# Altium schematic symbol library TI Microcontroller 32-Bit ARM.SchLib: 163 symbols (part 9 of 10)
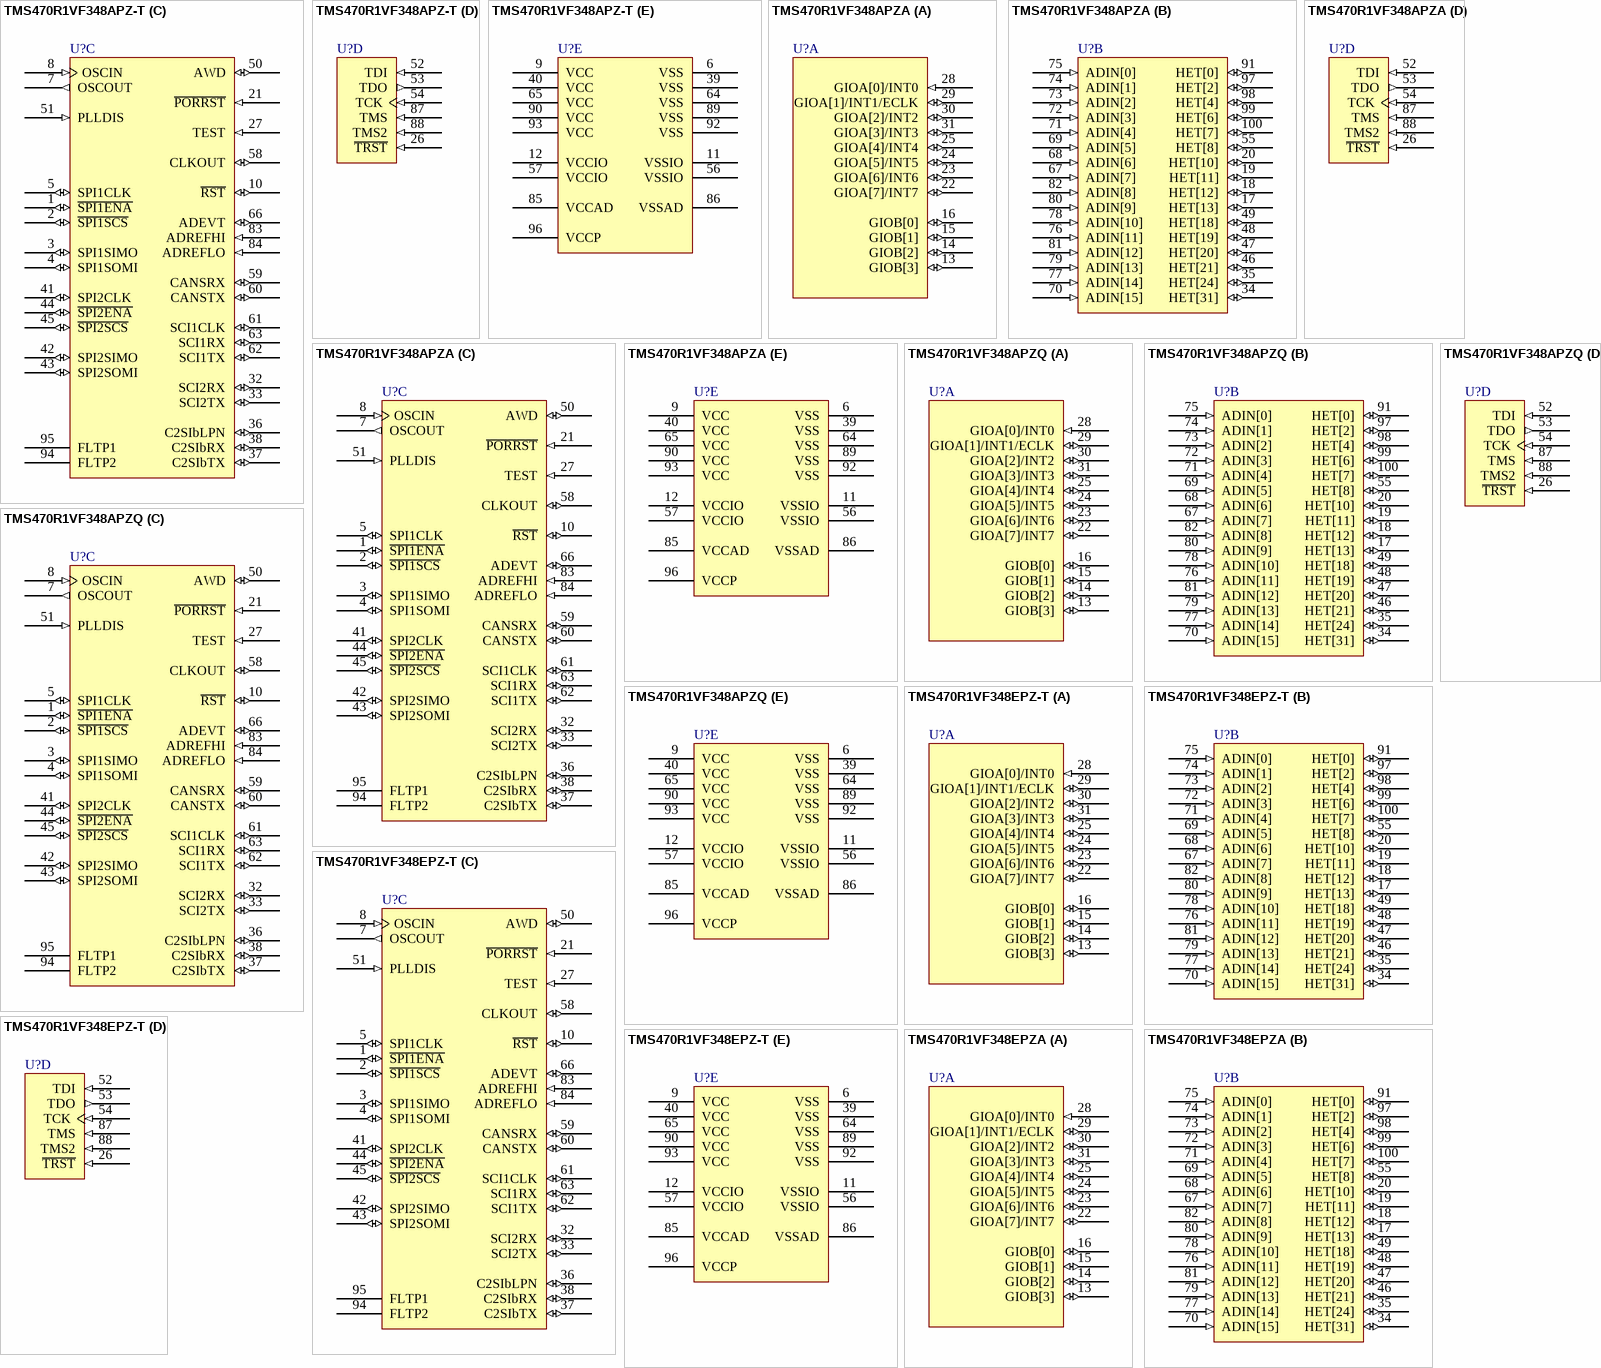
[diagram p60: symbols TMS470R1VF348APZ-T to TMS470R1VF348EPZA]

## TMS470R1VF348APZA
designator U?
ARM7TDMI 16/32-Bit RISC Automotive MCU, 256KB Flash, 12KB RAM, 100-pin LQFP, -40ºC to 85ºC; Published: 30-Mar-2007; DatasheetVersion: Aug-2006; PackageVersion: Dec-1996; PackageReference: PZ100; Publisher: Altium Limited; PackageDescription: 100-Pin Thin Quad Flat Pack 0.5 mm Pitch; ComponentLink1Description: Manufacturer Link; ComponentLink1URL: http://www.ti.com/; ComponentLink2Description: Datasheet; ComponentLink2URL: http://focus.ti.com/lit/ds/symlink/tms470r1vf338.pdf
footprint PZ100_N (Thin QFP, 100-Leads, Body 14x14mm, Pitch 0.5mm, IPC Medium Density)
footprint PZ100_L (Thin QFP, 100-Leads, Body 14x14mm, Pitch 0.5mm, IPC High Density)
footprint PZ100_M (Thin QFP, 100-Leads, Body 14x14mm, Pitch 0.5mm, IPC Low Density)
part A pins: 13 GIOB[3] (io), 14 GIOB[2] (io), 15 GIOB[1] (io), 16 GIOB[0] (io), 22 GIOA[7]/INT7 (io), 23 GIOA[6]/INT6 (io), 24 GIOA[5]/INT5 (io), 25 GIOA[4]/INT4 (io), 28 GIOA[0]/INT0 (in), 29 GIOA[1]/INT1/ECLK (io), 30 GIOA[2]/INT2 (io), 31 GIOA[3]/INT3 (io)
part B pins: 17 HET[13] (io), 18 HET[12] (io), 19 HET[11] (io), 20 HET[10] (io), 34 HET[31] (io), 35 HET[24] (io), 46 HET[21] (io), 47 HET[20] (io), 48 HET[19] (io), 49 HET[18] (io), 55 HET[8] (io), 67 ADIN[7] (in), 68 ADIN[6] (in), 69 ADIN[5] (in), 70 ADIN[15] (in), 71 ADIN[4] (in), 72 ADIN[3] (in), 73 ADIN[2] (in), 74 ADIN[1] (in), 75 ADIN[0] (in), 76 ADIN[11] (in), 77 ADIN[14] (in), 78 ADIN[10] (in), 79 ADIN[13] (in), 80 ADIN[9] (in), 81 ADIN[12] (in), 82 ADIN[8] (in), 91 HET[0] (io), 97 HET[2] (io), 98 HET[4] (io), 99 HET[6] (io), 100 HET[7] (io)
part C pins: 1 ~{SPI1ENA} (io), 2 ~{SPI1SCS} (io), 3 SPI1SIMO (io), 4 SPI1SOMI (io), 5 SPI1CLK (io), 7 OSCOUT (out), 8 OSCIN (in), 10 ~{RST} (io), 21 ~{PORRST} (in), 27 TEST (in), 32 SCI2RX (io), 33 SCI2TX (io), 36 C2SIbLPN (io), 37 C2SIbTX (io), 38 C2SIbRX (io), 41 SPI2CLK (io), 42 SPI2SIMO (io), 43 SPI2SOMI (io), 44 ~{SPI2ENA} (io), 45 ~{SPI2SCS} (io), 50 AWD (io), 51 PLLDIS (in), 58 CLKOUT (io), 59 CANSRX (io), 60 CANSTX (io), 61 SCI1CLK (io), 62 SCI1TX (io), 63 SCI1RX (io), 66 ADEVT (io), 83 ADREFHI (in), 84 ADREFLO (in), 94 FLTP2, 95 FLTP1
part D pins: 26 ~{TRST} (in), 52 TDI (in), 53 TDO (out), 54 TCK (in), 87 TMS (in), 88 TMS2 (in)
part E pins: 6 VSS (power), 9 VCC (power), 11 VSSIO (power), 12 VCCIO (power), 39 VSS (power), 40 VCC (power), 56 VSSIO (power), 57 VCCIO (power), 64 VSS (power), 65 VCC (power), 85 VCCAD (power), 86 VSSAD (power), 89 VSS (power), 90 VCC (power), 92 VSS (power), 93 VCC (power), 96 VCCP (power)

## TMS470R1VF348APZQ
designator U?
ARM7TDMI 16/32-Bit RISC Automotive MCU, 256KB Flash, 12KB RAM, 100-pin LQFP, -40ºC to 125ºC; Published: 30-Mar-2007; DatasheetVersion: Aug-2006; PackageVersion: Dec-1996; PackageReference: PZ100; Publisher: Altium Limited; PackageDescription: 100-Pin Thin Quad Flat Pack 0.5 mm Pitch; ComponentLink1Description: Manufacturer Link; ComponentLink1URL: http://www.ti.com/; ComponentLink2Description: Datasheet; ComponentLink2URL: http://focus.ti.com/lit/ds/symlink/tms470r1vf338.pdf
footprint PZ100_N (Thin QFP, 100-Leads, Body 14x14mm, Pitch 0.5mm, IPC Medium Density)
footprint PZ100_L (Thin QFP, 100-Leads, Body 14x14mm, Pitch 0.5mm, IPC High Density)
footprint PZ100_M (Thin QFP, 100-Leads, Body 14x14mm, Pitch 0.5mm, IPC Low Density)
part A pins: 13 GIOB[3] (io), 14 GIOB[2] (io), 15 GIOB[1] (io), 16 GIOB[0] (io), 22 GIOA[7]/INT7 (io), 23 GIOA[6]/INT6 (io), 24 GIOA[5]/INT5 (io), 25 GIOA[4]/INT4 (io), 28 GIOA[0]/INT0 (in), 29 GIOA[1]/INT1/ECLK (io), 30 GIOA[2]/INT2 (io), 31 GIOA[3]/INT3 (io)
part B pins: 17 HET[13] (io), 18 HET[12] (io), 19 HET[11] (io), 20 HET[10] (io), 34 HET[31] (io), 35 HET[24] (io), 46 HET[21] (io), 47 HET[20] (io), 48 HET[19] (io), 49 HET[18] (io), 55 HET[8] (io), 67 ADIN[7] (in), 68 ADIN[6] (in), 69 ADIN[5] (in), 70 ADIN[15] (in), 71 ADIN[4] (in), 72 ADIN[3] (in), 73 ADIN[2] (in), 74 ADIN[1] (in), 75 ADIN[0] (in), 76 ADIN[11] (in), 77 ADIN[14] (in), 78 ADIN[10] (in), 79 ADIN[13] (in), 80 ADIN[9] (in), 81 ADIN[12] (in), 82 ADIN[8] (in), 91 HET[0] (io), 97 HET[2] (io), 98 HET[4] (io), 99 HET[6] (io), 100 HET[7] (io)
part C pins: 1 ~{SPI1ENA} (io), 2 ~{SPI1SCS} (io), 3 SPI1SIMO (io), 4 SPI1SOMI (io), 5 SPI1CLK (io), 7 OSCOUT (out), 8 OSCIN (in), 10 ~{RST} (io), 21 ~{PORRST} (in), 27 TEST (in), 32 SCI2RX (io), 33 SCI2TX (io), 36 C2SIbLPN (io), 37 C2SIbTX (io), 38 C2SIbRX (io), 41 SPI2CLK (io), 42 SPI2SIMO (io), 43 SPI2SOMI (io), 44 ~{SPI2ENA} (io), 45 ~{SPI2SCS} (io), 50 AWD (io), 51 PLLDIS (in), 58 CLKOUT (io), 59 CANSRX (io), 60 CANSTX (io), 61 SCI1CLK (io), 62 SCI1TX (io), 63 SCI1RX (io), 66 ADEVT (io), 83 ADREFHI (in), 84 ADREFLO (in), 94 FLTP2, 95 FLTP1
part D pins: 26 ~{TRST} (in), 52 TDI (in), 53 TDO (out), 54 TCK (in), 87 TMS (in), 88 TMS2 (in)
part E pins: 6 VSS (power), 9 VCC (power), 11 VSSIO (power), 12 VCCIO (power), 39 VSS (power), 40 VCC (power), 56 VSSIO (power), 57 VCCIO (power), 64 VSS (power), 65 VCC (power), 85 VCCAD (power), 86 VSSAD (power), 89 VSS (power), 90 VCC (power), 92 VSS (power), 93 VCC (power), 96 VCCP (power)

## TMS470R1VF348EPZ-T
designator U?
ARM7TDMI 16/32-Bit RISC Automotive MCU, 256KB Flash, 12KB RAM, 100-pin LQFP, -40ºC to 105ºC; Published: 30-Mar-2007; DatasheetVersion: Aug-2006; PackageVersion: Dec-1996; PackageReference: PZ100; Publisher: Altium Limited; PackageDescription: 100-Pin Thin Quad Flat Pack 0.5 mm Pitch; ComponentLink1Description: Manufacturer Link; ComponentLink1URL: http://www.ti.com/; ComponentLink2Description: Datasheet; ComponentLink2URL: http://focus.ti.com/lit/ds/symlink/tms470r1vf338.pdf
footprint PZ100_N (Thin QFP, 100-Leads, Body 14x14mm, Pitch 0.5mm, IPC Medium Density)
footprint PZ100_L (Thin QFP, 100-Leads, Body 14x14mm, Pitch 0.5mm, IPC High Density)
footprint PZ100_M (Thin QFP, 100-Leads, Body 14x14mm, Pitch 0.5mm, IPC Low Density)
part A pins: 13 GIOB[3] (io), 14 GIOB[2] (io), 15 GIOB[1] (io), 16 GIOB[0] (io), 22 GIOA[7]/INT7 (io), 23 GIOA[6]/INT6 (io), 24 GIOA[5]/INT5 (io), 25 GIOA[4]/INT4 (io), 28 GIOA[0]/INT0 (in), 29 GIOA[1]/INT1/ECLK (io), 30 GIOA[2]/INT2 (io), 31 GIOA[3]/INT3 (io)
part B pins: 17 HET[13] (io), 18 HET[12] (io), 19 HET[11] (io), 20 HET[10] (io), 34 HET[31] (io), 35 HET[24] (io), 46 HET[21] (io), 47 HET[20] (io), 48 HET[19] (io), 49 HET[18] (io), 55 HET[8] (io), 67 ADIN[7] (in), 68 ADIN[6] (in), 69 ADIN[5] (in), 70 ADIN[15] (in), 71 ADIN[4] (in), 72 ADIN[3] (in), 73 ADIN[2] (in), 74 ADIN[1] (in), 75 ADIN[0] (in), 76 ADIN[11] (in), 77 ADIN[14] (in), 78 ADIN[10] (in), 79 ADIN[13] (in), 80 ADIN[9] (in), 81 ADIN[12] (in), 82 ADIN[8] (in), 91 HET[0] (io), 97 HET[2] (io), 98 HET[4] (io), 99 HET[6] (io), 100 HET[7] (io)
part C pins: 1 ~{SPI1ENA} (io), 2 ~{SPI1SCS} (io), 3 SPI1SIMO (io), 4 SPI1SOMI (io), 5 SPI1CLK (io), 7 OSCOUT (out), 8 OSCIN (in), 10 ~{RST} (io), 21 ~{PORRST} (in), 27 TEST (in), 32 SCI2RX (io), 33 SCI2TX (io), 36 C2SIbLPN (io), 37 C2SIbTX (io), 38 C2SIbRX (io), 41 SPI2CLK (io), 42 SPI2SIMO (io), 43 SPI2SOMI (io), 44 ~{SPI2ENA} (io), 45 ~{SPI2SCS} (io), 50 AWD (io), 51 PLLDIS (in), 58 CLKOUT (io), 59 CANSRX (io), 60 CANSTX (io), 61 SCI1CLK (io), 62 SCI1TX (io), 63 SCI1RX (io), 66 ADEVT (io), 83 ADREFHI (in), 84 ADREFLO (in), 94 FLTP2, 95 FLTP1
part D pins: 26 ~{TRST} (in), 52 TDI (in), 53 TDO (out), 54 TCK (in), 87 TMS (in), 88 TMS2 (in)
part E pins: 6 VSS (power), 9 VCC (power), 11 VSSIO (power), 12 VCCIO (power), 39 VSS (power), 40 VCC (power), 56 VSSIO (power), 57 VCCIO (power), 64 VSS (power), 65 VCC (power), 85 VCCAD (power), 86 VSSAD (power), 89 VSS (power), 90 VCC (power), 92 VSS (power), 93 VCC (power), 96 VCCP (power)

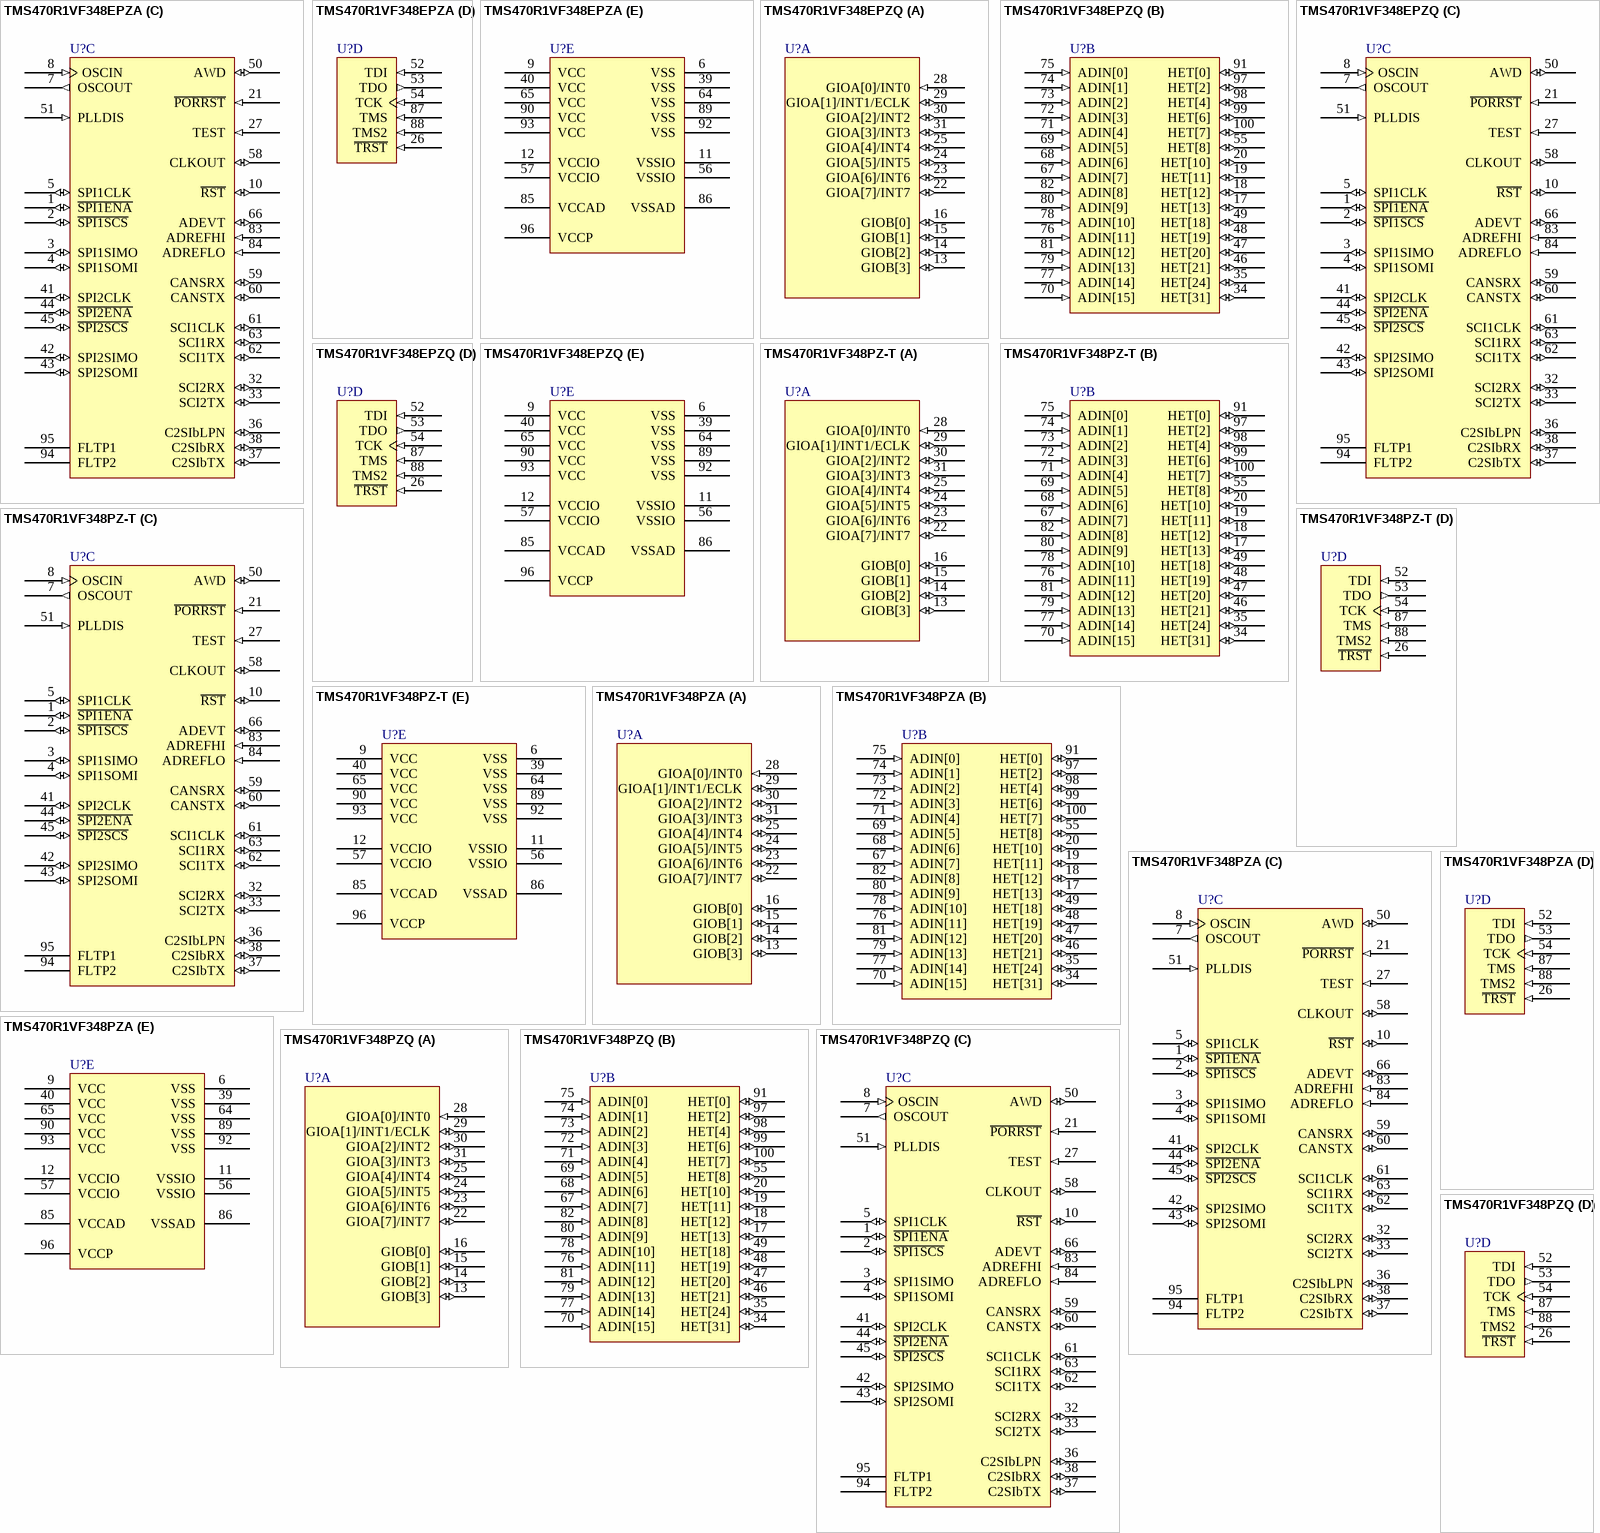
[diagram p43: symbols TMS470R1VF348EPZA to TMS470R1VF348PZQ]

## TMS470R1VF348EPZA
designator U?
ARM7TDMI 16/32-Bit RISC Automotive MCU, 256KB Flash, 12KB RAM, 100-pin LQFP, -40ºC to 85ºC; Published: 30-Mar-2007; DatasheetVersion: Aug-2006; PackageVersion: Dec-1996; PackageReference: PZ100; Publisher: Altium Limited; PackageDescription: 100-Pin Thin Quad Flat Pack 0.5 mm Pitch; ComponentLink1Description: Manufacturer Link; ComponentLink1URL: http://www.ti.com/; ComponentLink2Description: Datasheet; ComponentLink2URL: http://focus.ti.com/lit/ds/symlink/tms470r1vf338.pdf
footprint PZ100_N (Thin QFP, 100-Leads, Body 14x14mm, Pitch 0.5mm, IPC Medium Density)
footprint PZ100_L (Thin QFP, 100-Leads, Body 14x14mm, Pitch 0.5mm, IPC High Density)
footprint PZ100_M (Thin QFP, 100-Leads, Body 14x14mm, Pitch 0.5mm, IPC Low Density)
part A pins: 13 GIOB[3] (io), 14 GIOB[2] (io), 15 GIOB[1] (io), 16 GIOB[0] (io), 22 GIOA[7]/INT7 (io), 23 GIOA[6]/INT6 (io), 24 GIOA[5]/INT5 (io), 25 GIOA[4]/INT4 (io), 28 GIOA[0]/INT0 (in), 29 GIOA[1]/INT1/ECLK (io), 30 GIOA[2]/INT2 (io), 31 GIOA[3]/INT3 (io)
part B pins: 17 HET[13] (io), 18 HET[12] (io), 19 HET[11] (io), 20 HET[10] (io), 34 HET[31] (io), 35 HET[24] (io), 46 HET[21] (io), 47 HET[20] (io), 48 HET[19] (io), 49 HET[18] (io), 55 HET[8] (io), 67 ADIN[7] (in), 68 ADIN[6] (in), 69 ADIN[5] (in), 70 ADIN[15] (in), 71 ADIN[4] (in), 72 ADIN[3] (in), 73 ADIN[2] (in), 74 ADIN[1] (in), 75 ADIN[0] (in), 76 ADIN[11] (in), 77 ADIN[14] (in), 78 ADIN[10] (in), 79 ADIN[13] (in), 80 ADIN[9] (in), 81 ADIN[12] (in), 82 ADIN[8] (in), 91 HET[0] (io), 97 HET[2] (io), 98 HET[4] (io), 99 HET[6] (io), 100 HET[7] (io)
part C pins: 1 ~{SPI1ENA} (io), 2 ~{SPI1SCS} (io), 3 SPI1SIMO (io), 4 SPI1SOMI (io), 5 SPI1CLK (io), 7 OSCOUT (out), 8 OSCIN (in), 10 ~{RST} (io), 21 ~{PORRST} (in), 27 TEST (in), 32 SCI2RX (io), 33 SCI2TX (io), 36 C2SIbLPN (io), 37 C2SIbTX (io), 38 C2SIbRX (io), 41 SPI2CLK (io), 42 SPI2SIMO (io), 43 SPI2SOMI (io), 44 ~{SPI2ENA} (io), 45 ~{SPI2SCS} (io), 50 AWD (io), 51 PLLDIS (in), 58 CLKOUT (io), 59 CANSRX (io), 60 CANSTX (io), 61 SCI1CLK (io), 62 SCI1TX (io), 63 SCI1RX (io), 66 ADEVT (io), 83 ADREFHI (in), 84 ADREFLO (in), 94 FLTP2, 95 FLTP1
part D pins: 26 ~{TRST} (in), 52 TDI (in), 53 TDO (out), 54 TCK (in), 87 TMS (in), 88 TMS2 (in)
part E pins: 6 VSS (power), 9 VCC (power), 11 VSSIO (power), 12 VCCIO (power), 39 VSS (power), 40 VCC (power), 56 VSSIO (power), 57 VCCIO (power), 64 VSS (power), 65 VCC (power), 85 VCCAD (power), 86 VSSAD (power), 89 VSS (power), 90 VCC (power), 92 VSS (power), 93 VCC (power), 96 VCCP (power)

## TMS470R1VF348EPZQ
designator U?
ARM7TDMI 16/32-Bit RISC Automotive MCU, 256KB Flash, 12KB RAM, 100-pin LQFP, -40ºC to 125ºC; Published: 30-Mar-2007; DatasheetVersion: Aug-2006; PackageVersion: Dec-1996; PackageReference: PZ100; Publisher: Altium Limited; PackageDescription: 100-Pin Thin Quad Flat Pack 0.5 mm Pitch; ComponentLink1Description: Manufacturer Link; ComponentLink1URL: http://www.ti.com/; ComponentLink2Description: Datasheet; ComponentLink2URL: http://focus.ti.com/lit/ds/symlink/tms470r1vf338.pdf
footprint PZ100_N (Thin QFP, 100-Leads, Body 14x14mm, Pitch 0.5mm, IPC Medium Density)
footprint PZ100_L (Thin QFP, 100-Leads, Body 14x14mm, Pitch 0.5mm, IPC High Density)
footprint PZ100_M (Thin QFP, 100-Leads, Body 14x14mm, Pitch 0.5mm, IPC Low Density)
part A pins: 13 GIOB[3] (io), 14 GIOB[2] (io), 15 GIOB[1] (io), 16 GIOB[0] (io), 22 GIOA[7]/INT7 (io), 23 GIOA[6]/INT6 (io), 24 GIOA[5]/INT5 (io), 25 GIOA[4]/INT4 (io), 28 GIOA[0]/INT0 (in), 29 GIOA[1]/INT1/ECLK (io), 30 GIOA[2]/INT2 (io), 31 GIOA[3]/INT3 (io)
part B pins: 17 HET[13] (io), 18 HET[12] (io), 19 HET[11] (io), 20 HET[10] (io), 34 HET[31] (io), 35 HET[24] (io), 46 HET[21] (io), 47 HET[20] (io), 48 HET[19] (io), 49 HET[18] (io), 55 HET[8] (io), 67 ADIN[7] (in), 68 ADIN[6] (in), 69 ADIN[5] (in), 70 ADIN[15] (in), 71 ADIN[4] (in), 72 ADIN[3] (in), 73 ADIN[2] (in), 74 ADIN[1] (in), 75 ADIN[0] (in), 76 ADIN[11] (in), 77 ADIN[14] (in), 78 ADIN[10] (in), 79 ADIN[13] (in), 80 ADIN[9] (in), 81 ADIN[12] (in), 82 ADIN[8] (in), 91 HET[0] (io), 97 HET[2] (io), 98 HET[4] (io), 99 HET[6] (io), 100 HET[7] (io)
part C pins: 1 ~{SPI1ENA} (io), 2 ~{SPI1SCS} (io), 3 SPI1SIMO (io), 4 SPI1SOMI (io), 5 SPI1CLK (io), 7 OSCOUT (out), 8 OSCIN (in), 10 ~{RST} (io), 21 ~{PORRST} (in), 27 TEST (in), 32 SCI2RX (io), 33 SCI2TX (io), 36 C2SIbLPN (io), 37 C2SIbTX (io), 38 C2SIbRX (io), 41 SPI2CLK (io), 42 SPI2SIMO (io), 43 SPI2SOMI (io), 44 ~{SPI2ENA} (io), 45 ~{SPI2SCS} (io), 50 AWD (io), 51 PLLDIS (in), 58 CLKOUT (io), 59 CANSRX (io), 60 CANSTX (io), 61 SCI1CLK (io), 62 SCI1TX (io), 63 SCI1RX (io), 66 ADEVT (io), 83 ADREFHI (in), 84 ADREFLO (in), 94 FLTP2, 95 FLTP1
part D pins: 26 ~{TRST} (in), 52 TDI (in), 53 TDO (out), 54 TCK (in), 87 TMS (in), 88 TMS2 (in)
part E pins: 6 VSS (power), 9 VCC (power), 11 VSSIO (power), 12 VCCIO (power), 39 VSS (power), 40 VCC (power), 56 VSSIO (power), 57 VCCIO (power), 64 VSS (power), 65 VCC (power), 85 VCCAD (power), 86 VSSAD (power), 89 VSS (power), 90 VCC (power), 92 VSS (power), 93 VCC (power), 96 VCCP (power)

## TMS470R1VF348PZ-T
designator U?
ARM7TDMI 16/32-Bit RISC Automotive MCU, 256KB Flash, 12KB RAM, 100-pin LQFP, -40ºC to 105ºC; Published: 30-Mar-2007; DatasheetVersion: Aug-2006; PackageVersion: Dec-1996; PackageReference: PZ100; Publisher: Altium Limited; PackageDescription: 100-Pin Thin Quad Flat Pack 0.5 mm Pitch; ComponentLink1Description: Manufacturer Link; ComponentLink1URL: http://www.ti.com/; ComponentLink2Description: Datasheet; ComponentLink2URL: http://focus.ti.com/lit/ds/symlink/tms470r1vf338.pdf
footprint PZ100_N (Thin QFP, 100-Leads, Body 14x14mm, Pitch 0.5mm, IPC Medium Density)
footprint PZ100_L (Thin QFP, 100-Leads, Body 14x14mm, Pitch 0.5mm, IPC High Density)
footprint PZ100_M (Thin QFP, 100-Leads, Body 14x14mm, Pitch 0.5mm, IPC Low Density)
part A pins: 13 GIOB[3] (io), 14 GIOB[2] (io), 15 GIOB[1] (io), 16 GIOB[0] (io), 22 GIOA[7]/INT7 (io), 23 GIOA[6]/INT6 (io), 24 GIOA[5]/INT5 (io), 25 GIOA[4]/INT4 (io), 28 GIOA[0]/INT0 (in), 29 GIOA[1]/INT1/ECLK (io), 30 GIOA[2]/INT2 (io), 31 GIOA[3]/INT3 (io)
part B pins: 17 HET[13] (io), 18 HET[12] (io), 19 HET[11] (io), 20 HET[10] (io), 34 HET[31] (io), 35 HET[24] (io), 46 HET[21] (io), 47 HET[20] (io), 48 HET[19] (io), 49 HET[18] (io), 55 HET[8] (io), 67 ADIN[7] (in), 68 ADIN[6] (in), 69 ADIN[5] (in), 70 ADIN[15] (in), 71 ADIN[4] (in), 72 ADIN[3] (in), 73 ADIN[2] (in), 74 ADIN[1] (in), 75 ADIN[0] (in), 76 ADIN[11] (in), 77 ADIN[14] (in), 78 ADIN[10] (in), 79 ADIN[13] (in), 80 ADIN[9] (in), 81 ADIN[12] (in), 82 ADIN[8] (in), 91 HET[0] (io), 97 HET[2] (io), 98 HET[4] (io), 99 HET[6] (io), 100 HET[7] (io)
part C pins: 1 ~{SPI1ENA} (io), 2 ~{SPI1SCS} (io), 3 SPI1SIMO (io), 4 SPI1SOMI (io), 5 SPI1CLK (io), 7 OSCOUT (out), 8 OSCIN (in), 10 ~{RST} (io), 21 ~{PORRST} (in), 27 TEST (in), 32 SCI2RX (io), 33 SCI2TX (io), 36 C2SIbLPN (io), 37 C2SIbTX (io), 38 C2SIbRX (io), 41 SPI2CLK (io), 42 SPI2SIMO (io), 43 SPI2SOMI (io), 44 ~{SPI2ENA} (io), 45 ~{SPI2SCS} (io), 50 AWD (io), 51 PLLDIS (in), 58 CLKOUT (io), 59 CANSRX (io), 60 CANSTX (io), 61 SCI1CLK (io), 62 SCI1TX (io), 63 SCI1RX (io), 66 ADEVT (io), 83 ADREFHI (in), 84 ADREFLO (in), 94 FLTP2, 95 FLTP1
part D pins: 26 ~{TRST} (in), 52 TDI (in), 53 TDO (out), 54 TCK (in), 87 TMS (in), 88 TMS2 (in)
part E pins: 6 VSS (power), 9 VCC (power), 11 VSSIO (power), 12 VCCIO (power), 39 VSS (power), 40 VCC (power), 56 VSSIO (power), 57 VCCIO (power), 64 VSS (power), 65 VCC (power), 85 VCCAD (power), 86 VSSAD (power), 89 VSS (power), 90 VCC (power), 92 VSS (power), 93 VCC (power), 96 VCCP (power)

## TMS470R1VF348PZA
designator U?
ARM7TDMI 16/32-Bit RISC Automotive MCU, 256KB Flash, 12KB RAM, 100-pin LQFP, -40ºC to 85ºC; Published: 30-Mar-2007; DatasheetVersion: Aug-2006; PackageVersion: Dec-1996; PackageReference: PZ100; Publisher: Altium Limited; PackageDescription: 100-Pin Thin Quad Flat Pack 0.5 mm Pitch; ComponentLink1Description: Manufacturer Link; ComponentLink1URL: http://www.ti.com/; ComponentLink2Description: Datasheet; ComponentLink2URL: http://focus.ti.com/lit/ds/symlink/tms470r1vf338.pdf
footprint PZ100_N (Thin QFP, 100-Leads, Body 14x14mm, Pitch 0.5mm, IPC Medium Density)
footprint PZ100_L (Thin QFP, 100-Leads, Body 14x14mm, Pitch 0.5mm, IPC High Density)
footprint PZ100_M (Thin QFP, 100-Leads, Body 14x14mm, Pitch 0.5mm, IPC Low Density)
part A pins: 13 GIOB[3] (io), 14 GIOB[2] (io), 15 GIOB[1] (io), 16 GIOB[0] (io), 22 GIOA[7]/INT7 (io), 23 GIOA[6]/INT6 (io), 24 GIOA[5]/INT5 (io), 25 GIOA[4]/INT4 (io), 28 GIOA[0]/INT0 (in), 29 GIOA[1]/INT1/ECLK (io), 30 GIOA[2]/INT2 (io), 31 GIOA[3]/INT3 (io)
part B pins: 17 HET[13] (io), 18 HET[12] (io), 19 HET[11] (io), 20 HET[10] (io), 34 HET[31] (io), 35 HET[24] (io), 46 HET[21] (io), 47 HET[20] (io), 48 HET[19] (io), 49 HET[18] (io), 55 HET[8] (io), 67 ADIN[7] (in), 68 ADIN[6] (in), 69 ADIN[5] (in), 70 ADIN[15] (in), 71 ADIN[4] (in), 72 ADIN[3] (in), 73 ADIN[2] (in), 74 ADIN[1] (in), 75 ADIN[0] (in), 76 ADIN[11] (in), 77 ADIN[14] (in), 78 ADIN[10] (in), 79 ADIN[13] (in), 80 ADIN[9] (in), 81 ADIN[12] (in), 82 ADIN[8] (in), 91 HET[0] (io), 97 HET[2] (io), 98 HET[4] (io), 99 HET[6] (io), 100 HET[7] (io)
part C pins: 1 ~{SPI1ENA} (io), 2 ~{SPI1SCS} (io), 3 SPI1SIMO (io), 4 SPI1SOMI (io), 5 SPI1CLK (io), 7 OSCOUT (out), 8 OSCIN (in), 10 ~{RST} (io), 21 ~{PORRST} (in), 27 TEST (in), 32 SCI2RX (io), 33 SCI2TX (io), 36 C2SIbLPN (io), 37 C2SIbTX (io), 38 C2SIbRX (io), 41 SPI2CLK (io), 42 SPI2SIMO (io), 43 SPI2SOMI (io), 44 ~{SPI2ENA} (io), 45 ~{SPI2SCS} (io), 50 AWD (io), 51 PLLDIS (in), 58 CLKOUT (io), 59 CANSRX (io), 60 CANSTX (io), 61 SCI1CLK (io), 62 SCI1TX (io), 63 SCI1RX (io), 66 ADEVT (io), 83 ADREFHI (in), 84 ADREFLO (in), 94 FLTP2, 95 FLTP1
part D pins: 26 ~{TRST} (in), 52 TDI (in), 53 TDO (out), 54 TCK (in), 87 TMS (in), 88 TMS2 (in)
part E pins: 6 VSS (power), 9 VCC (power), 11 VSSIO (power), 12 VCCIO (power), 39 VSS (power), 40 VCC (power), 56 VSSIO (power), 57 VCCIO (power), 64 VSS (power), 65 VCC (power), 85 VCCAD (power), 86 VSSAD (power), 89 VSS (power), 90 VCC (power), 92 VSS (power), 93 VCC (power), 96 VCCP (power)

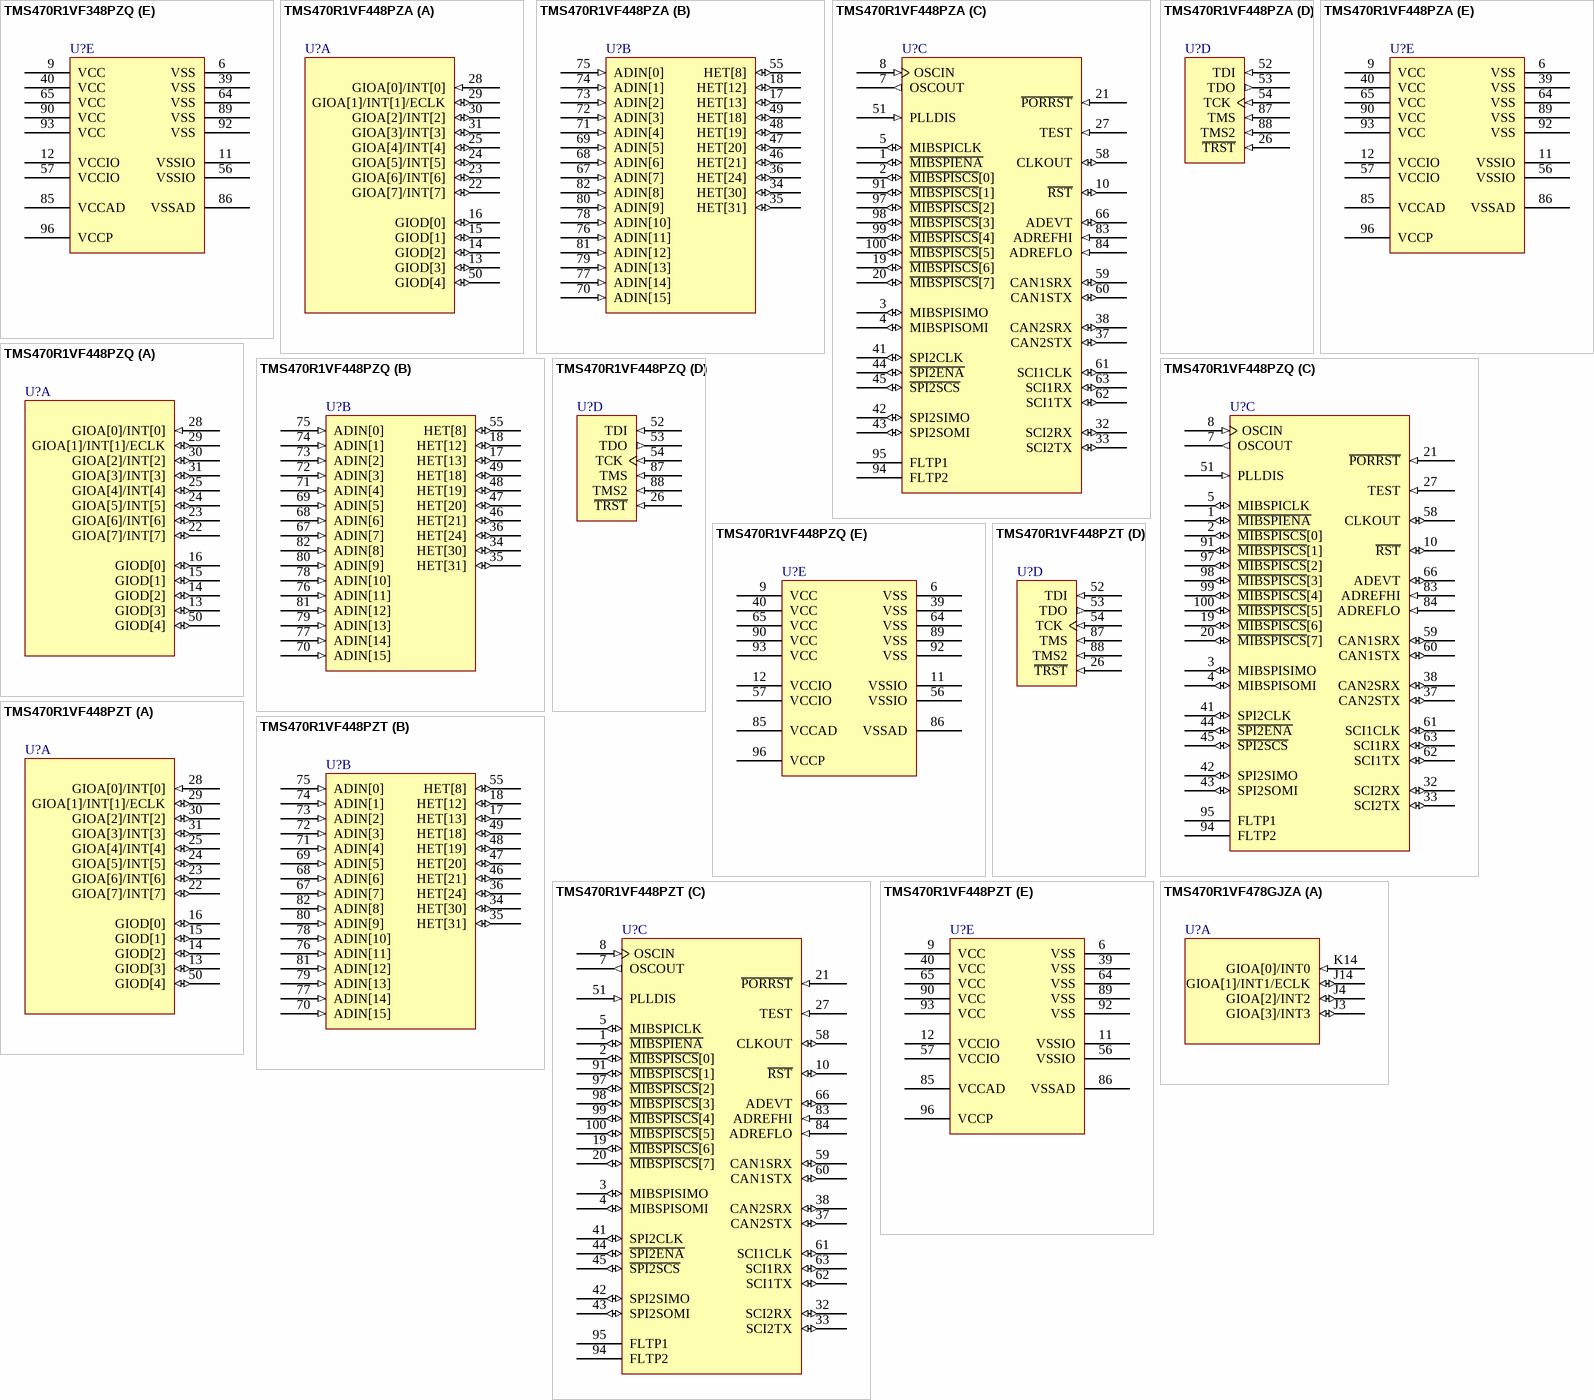
[diagram p44: symbols TMS470R1VF348PZQ to TMS470R1VF478GJZA]

## TMS470R1VF348PZQ
designator U?
ARM7TDMI 16/32-Bit RISC Automotive MCU, 256KB Flash, 12KB RAM, 100-pin LQFP, -40ºC to 125ºC; Published: 30-Mar-2007; DatasheetVersion: Aug-2006; PackageVersion: Dec-1996; PackageReference: PZ100; Publisher: Altium Limited; PackageDescription: 100-Pin Thin Quad Flat Pack 0.5 mm Pitch; ComponentLink1Description: Manufacturer Link; ComponentLink1URL: http://www.ti.com/; ComponentLink2Description: Datasheet; ComponentLink2URL: http://focus.ti.com/lit/ds/symlink/tms470r1vf338.pdf
footprint PZ100_N (Thin QFP, 100-Leads, Body 14x14mm, Pitch 0.5mm, IPC Medium Density)
footprint PZ100_L (Thin QFP, 100-Leads, Body 14x14mm, Pitch 0.5mm, IPC High Density)
footprint PZ100_M (Thin QFP, 100-Leads, Body 14x14mm, Pitch 0.5mm, IPC Low Density)
part A pins: 13 GIOB[3] (io), 14 GIOB[2] (io), 15 GIOB[1] (io), 16 GIOB[0] (io), 22 GIOA[7]/INT7 (io), 23 GIOA[6]/INT6 (io), 24 GIOA[5]/INT5 (io), 25 GIOA[4]/INT4 (io), 28 GIOA[0]/INT0 (in), 29 GIOA[1]/INT1/ECLK (io), 30 GIOA[2]/INT2 (io), 31 GIOA[3]/INT3 (io)
part B pins: 17 HET[13] (io), 18 HET[12] (io), 19 HET[11] (io), 20 HET[10] (io), 34 HET[31] (io), 35 HET[24] (io), 46 HET[21] (io), 47 HET[20] (io), 48 HET[19] (io), 49 HET[18] (io), 55 HET[8] (io), 67 ADIN[7] (in), 68 ADIN[6] (in), 69 ADIN[5] (in), 70 ADIN[15] (in), 71 ADIN[4] (in), 72 ADIN[3] (in), 73 ADIN[2] (in), 74 ADIN[1] (in), 75 ADIN[0] (in), 76 ADIN[11] (in), 77 ADIN[14] (in), 78 ADIN[10] (in), 79 ADIN[13] (in), 80 ADIN[9] (in), 81 ADIN[12] (in), 82 ADIN[8] (in), 91 HET[0] (io), 97 HET[2] (io), 98 HET[4] (io), 99 HET[6] (io), 100 HET[7] (io)
part C pins: 1 ~{SPI1ENA} (io), 2 ~{SPI1SCS} (io), 3 SPI1SIMO (io), 4 SPI1SOMI (io), 5 SPI1CLK (io), 7 OSCOUT (out), 8 OSCIN (in), 10 ~{RST} (io), 21 ~{PORRST} (in), 27 TEST (in), 32 SCI2RX (io), 33 SCI2TX (io), 36 C2SIbLPN (io), 37 C2SIbTX (io), 38 C2SIbRX (io), 41 SPI2CLK (io), 42 SPI2SIMO (io), 43 SPI2SOMI (io), 44 ~{SPI2ENA} (io), 45 ~{SPI2SCS} (io), 50 AWD (io), 51 PLLDIS (in), 58 CLKOUT (io), 59 CANSRX (io), 60 CANSTX (io), 61 SCI1CLK (io), 62 SCI1TX (io), 63 SCI1RX (io), 66 ADEVT (io), 83 ADREFHI (in), 84 ADREFLO (in), 94 FLTP2, 95 FLTP1
part D pins: 26 ~{TRST} (in), 52 TDI (in), 53 TDO (out), 54 TCK (in), 87 TMS (in), 88 TMS2 (in)
part E pins: 6 VSS (power), 9 VCC (power), 11 VSSIO (power), 12 VCCIO (power), 39 VSS (power), 40 VCC (power), 56 VSSIO (power), 57 VCCIO (power), 64 VSS (power), 65 VCC (power), 85 VCCAD (power), 86 VSSAD (power), 89 VSS (power), 90 VCC (power), 92 VSS (power), 93 VCC (power), 96 VCCP (power)

## TMS470R1VF448PZA
designator U?
ARM7TDMI 16/32-Bit RISC Automotive MCU, 256KB Flash, 16KB RAM, 100-pin LQFP, -40ºC to 85ºC; Note: The AWD signal is only connected to the pad and not to a package pin.; Published: 30-Mar-2007; DatasheetVersion: Aug-2006; PackageVersion: Dec-1996; PackageReference: PZ100; Publisher: Altium Limited; PackageDescription: 100-Pin Thin Quad Flat Pack 0.5 mm Pitch; ComponentLink1Description: Manufacturer Link; ComponentLink1URL: http://www.ti.com/; ComponentLink2Description: Datasheet; ComponentLink2URL: http://focus.ti.com/lit/ds/symlink/tms470r1vf448.pdf
footprint PZ100_N (Thin QFP, 100-Leads, Body 14x14mm, Pitch 0.5mm, IPC Medium Density)
footprint PZ100_L (Thin QFP, 100-Leads, Body 14x14mm, Pitch 0.5mm, IPC High Density)
footprint PZ100_M (Thin QFP, 100-Leads, Body 14x14mm, Pitch 0.5mm, IPC Low Density)
part A pins: 13 GIOD[3] (io), 14 GIOD[2] (io), 15 GIOD[1] (io), 16 GIOD[0] (io), 22 GIOA[7]/INT[7] (io), 23 GIOA[6]/INT[6] (io), 24 GIOA[5]/INT[5] (io), 25 GIOA[4]/INT[4] (io), 28 GIOA[0]/INT[0] (in), 29 GIOA[1]/INT[1]/ECLK (io), 30 GIOA[2]/INT[2] (io), 31 GIOA[3]/INT[3] (io), 50 GIOD[4] (io)
part B pins: 17 HET[13] (io), 18 HET[12] (io), 34 HET[30] (io), 35 HET[31] (io), 36 HET[24] (io), 46 HET[21] (io), 47 HET[20] (io), 48 HET[19] (io), 49 HET[18] (io), 55 HET[8] (io), 67 ADIN[7] (in), 68 ADIN[6] (in), 69 ADIN[5] (in), 70 ADIN[15] (in), 71 ADIN[4] (in), 72 ADIN[3] (in), 73 ADIN[2] (in), 74 ADIN[1] (in), 75 ADIN[0] (in), 76 ADIN[11] (in), 77 ADIN[14] (in), 78 ADIN[10] (in), 79 ADIN[13] (in), 80 ADIN[9] (in), 81 ADIN[12] (in), 82 ADIN[8] (in)
part C pins: 1 ~{MIBSPIENA} (io), 2 ~{MIBSPISCS}[0] (io), 3 MIBSPISIMO (io), 4 MIBSPISOMI (io), 5 MIBSPICLK (io), 7 OSCOUT (out), 8 OSCIN (in), 10 ~{RST} (io), 19 ~{MIBSPISCS}[6] (io), 20 ~{MIBSPISCS}[7] (io), 21 ~{PORRST} (in), 27 TEST (in), 32 SCI2RX (io), 33 SCI2TX (io), 37 CAN2STX (io), 38 CAN2SRX (io), 41 SPI2CLK (io), 42 SPI2SIMO (io), 43 SPI2SOMI (io), 44 ~{SPI2ENA} (io), 45 ~{SPI2SCS} (io), 51 PLLDIS (in), 58 CLKOUT (io), 59 CAN1SRX (io), 60 CAN1STX (io), 61 SCI1CLK (io), 62 SCI1TX (io), 63 SCI1RX (io), 66 ADEVT (io), 83 ADREFHI (in), 84 ADREFLO (in), 91 ~{MIBSPISCS}[1] (io), 94 FLTP2, 95 FLTP1, 97 ~{MIBSPISCS}[2] (io), 98 ~{MIBSPISCS}[3] (io), 99 ~{MIBSPISCS}[4] (io), 100 ~{MIBSPISCS}[5] (io)
part D pins: 26 ~{TRST} (in), 52 TDI (in), 53 TDO (out), 54 TCK (in), 87 TMS (in), 88 TMS2 (in)
part E pins: 6 VSS (power), 9 VCC (power), 11 VSSIO (power), 12 VCCIO (power), 39 VSS (power), 40 VCC (power), 56 VSSIO (power), 57 VCCIO (power), 64 VSS (power), 65 VCC (power), 85 VCCAD (power), 86 VSSAD (power), 89 VSS (power), 90 VCC (power), 92 VSS (power), 93 VCC (power), 96 VCCP (power)

## TMS470R1VF448PZQ
designator U?
ARM7TDMI 16/32-Bit RISC Automotive MCU, 256KB Flash, 16KB RAM, 100-pin LQFP, -40ºC to 125ºC; Note: The AWD signal is only connected to the pad and not to a package pin.; Published: 30-Mar-2007; DatasheetVersion: Aug-2006; PackageVersion: Dec-1996; PackageReference: PZ100; Publisher: Altium Limited; PackageDescription: 100-Pin Thin Quad Flat Pack 0.5 mm Pitch; ComponentLink1Description: Manufacturer Link; ComponentLink1URL: http://www.ti.com/; ComponentLink2Description: Datasheet; ComponentLink2URL: http://focus.ti.com/lit/ds/symlink/tms470r1vf448.pdf
footprint PZ100_N (Thin QFP, 100-Leads, Body 14x14mm, Pitch 0.5mm, IPC Medium Density)
footprint PZ100_L (Thin QFP, 100-Leads, Body 14x14mm, Pitch 0.5mm, IPC High Density)
footprint PZ100_M (Thin QFP, 100-Leads, Body 14x14mm, Pitch 0.5mm, IPC Low Density)
part A pins: 13 GIOD[3] (io), 14 GIOD[2] (io), 15 GIOD[1] (io), 16 GIOD[0] (io), 22 GIOA[7]/INT[7] (io), 23 GIOA[6]/INT[6] (io), 24 GIOA[5]/INT[5] (io), 25 GIOA[4]/INT[4] (io), 28 GIOA[0]/INT[0] (in), 29 GIOA[1]/INT[1]/ECLK (io), 30 GIOA[2]/INT[2] (io), 31 GIOA[3]/INT[3] (io), 50 GIOD[4] (io)
part B pins: 17 HET[13] (io), 18 HET[12] (io), 34 HET[30] (io), 35 HET[31] (io), 36 HET[24] (io), 46 HET[21] (io), 47 HET[20] (io), 48 HET[19] (io), 49 HET[18] (io), 55 HET[8] (io), 67 ADIN[7] (in), 68 ADIN[6] (in), 69 ADIN[5] (in), 70 ADIN[15] (in), 71 ADIN[4] (in), 72 ADIN[3] (in), 73 ADIN[2] (in), 74 ADIN[1] (in), 75 ADIN[0] (in), 76 ADIN[11] (in), 77 ADIN[14] (in), 78 ADIN[10] (in), 79 ADIN[13] (in), 80 ADIN[9] (in), 81 ADIN[12] (in), 82 ADIN[8] (in)
part C pins: 1 ~{MIBSPIENA} (io), 2 ~{MIBSPISCS}[0] (io), 3 MIBSPISIMO (io), 4 MIBSPISOMI (io), 5 MIBSPICLK (io), 7 OSCOUT (out), 8 OSCIN (in), 10 ~{RST} (io), 19 ~{MIBSPISCS}[6] (io), 20 ~{MIBSPISCS}[7] (io), 21 ~{PORRST} (in), 27 TEST (in), 32 SCI2RX (io), 33 SCI2TX (io), 37 CAN2STX (io), 38 CAN2SRX (io), 41 SPI2CLK (io), 42 SPI2SIMO (io), 43 SPI2SOMI (io), 44 ~{SPI2ENA} (io), 45 ~{SPI2SCS} (io), 51 PLLDIS (in), 58 CLKOUT (io), 59 CAN1SRX (io), 60 CAN1STX (io), 61 SCI1CLK (io), 62 SCI1TX (io), 63 SCI1RX (io), 66 ADEVT (io), 83 ADREFHI (in), 84 ADREFLO (in), 91 ~{MIBSPISCS}[1] (io), 94 FLTP2, 95 FLTP1, 97 ~{MIBSPISCS}[2] (io), 98 ~{MIBSPISCS}[3] (io), 99 ~{MIBSPISCS}[4] (io), 100 ~{MIBSPISCS}[5] (io)
part D pins: 26 ~{TRST} (in), 52 TDI (in), 53 TDO (out), 54 TCK (in), 87 TMS (in), 88 TMS2 (in)
part E pins: 6 VSS (power), 9 VCC (power), 11 VSSIO (power), 12 VCCIO (power), 39 VSS (power), 40 VCC (power), 56 VSSIO (power), 57 VCCIO (power), 64 VSS (power), 65 VCC (power), 85 VCCAD (power), 86 VSSAD (power), 89 VSS (power), 90 VCC (power), 92 VSS (power), 93 VCC (power), 96 VCCP (power)

## TMS470R1VF448PZT
designator U?
ARM7TDMI 16/32-Bit RISC Automotive MCU, 256KB Flash, 16KB RAM, 100-pin LQFP, -40ºC to 105ºC; Note: The AWD signal is only connected to the pad and not to a package pin.; Published: 30-Mar-2007; DatasheetVersion: Aug-2006; PackageVersion: Dec-1996; PackageReference: PZ100; Publisher: Altium Limited; PackageDescription: 100-Pin Thin Quad Flat Pack 0.5 mm Pitch; ComponentLink1Description: Manufacturer Link; ComponentLink1URL: http://www.ti.com/; ComponentLink2Description: Datasheet; ComponentLink2URL: http://focus.ti.com/lit/ds/symlink/tms470r1vf448.pdf
footprint PZ100_N (Thin QFP, 100-Leads, Body 14x14mm, Pitch 0.5mm, IPC Medium Density)
footprint PZ100_L (Thin QFP, 100-Leads, Body 14x14mm, Pitch 0.5mm, IPC High Density)
footprint PZ100_M (Thin QFP, 100-Leads, Body 14x14mm, Pitch 0.5mm, IPC Low Density)
part A pins: 13 GIOD[3] (io), 14 GIOD[2] (io), 15 GIOD[1] (io), 16 GIOD[0] (io), 22 GIOA[7]/INT[7] (io), 23 GIOA[6]/INT[6] (io), 24 GIOA[5]/INT[5] (io), 25 GIOA[4]/INT[4] (io), 28 GIOA[0]/INT[0] (in), 29 GIOA[1]/INT[1]/ECLK (io), 30 GIOA[2]/INT[2] (io), 31 GIOA[3]/INT[3] (io), 50 GIOD[4] (io)
part B pins: 17 HET[13] (io), 18 HET[12] (io), 34 HET[30] (io), 35 HET[31] (io), 36 HET[24] (io), 46 HET[21] (io), 47 HET[20] (io), 48 HET[19] (io), 49 HET[18] (io), 55 HET[8] (io), 67 ADIN[7] (in), 68 ADIN[6] (in), 69 ADIN[5] (in), 70 ADIN[15] (in), 71 ADIN[4] (in), 72 ADIN[3] (in), 73 ADIN[2] (in), 74 ADIN[1] (in), 75 ADIN[0] (in), 76 ADIN[11] (in), 77 ADIN[14] (in), 78 ADIN[10] (in), 79 ADIN[13] (in), 80 ADIN[9] (in), 81 ADIN[12] (in), 82 ADIN[8] (in)
part C pins: 1 ~{MIBSPIENA} (io), 2 ~{MIBSPISCS}[0] (io), 3 MIBSPISIMO (io), 4 MIBSPISOMI (io), 5 MIBSPICLK (io), 7 OSCOUT (out), 8 OSCIN (in), 10 ~{RST} (io), 19 ~{MIBSPISCS}[6] (io), 20 ~{MIBSPISCS}[7] (io), 21 ~{PORRST} (in), 27 TEST (in), 32 SCI2RX (io), 33 SCI2TX (io), 37 CAN2STX (io), 38 CAN2SRX (io), 41 SPI2CLK (io), 42 SPI2SIMO (io), 43 SPI2SOMI (io), 44 ~{SPI2ENA} (io), 45 ~{SPI2SCS} (io), 51 PLLDIS (in), 58 CLKOUT (io), 59 CAN1SRX (io), 60 CAN1STX (io), 61 SCI1CLK (io), 62 SCI1TX (io), 63 SCI1RX (io), 66 ADEVT (io), 83 ADREFHI (in), 84 ADREFLO (in), 91 ~{MIBSPISCS}[1] (io), 94 FLTP2, 95 FLTP1, 97 ~{MIBSPISCS}[2] (io), 98 ~{MIBSPISCS}[3] (io), 99 ~{MIBSPISCS}[4] (io), 100 ~{MIBSPISCS}[5] (io)
part D pins: 26 ~{TRST} (in), 52 TDI (in), 53 TDO (out), 54 TCK (in), 87 TMS (in), 88 TMS2 (in)
part E pins: 6 VSS (power), 9 VCC (power), 11 VSSIO (power), 12 VCCIO (power), 39 VSS (power), 40 VCC (power), 56 VSSIO (power), 57 VCCIO (power), 64 VSS (power), 65 VCC (power), 85 VCCAD (power), 86 VSSAD (power), 89 VSS (power), 90 VCC (power), 92 VSS (power), 93 VCC (power), 96 VCCP (power)

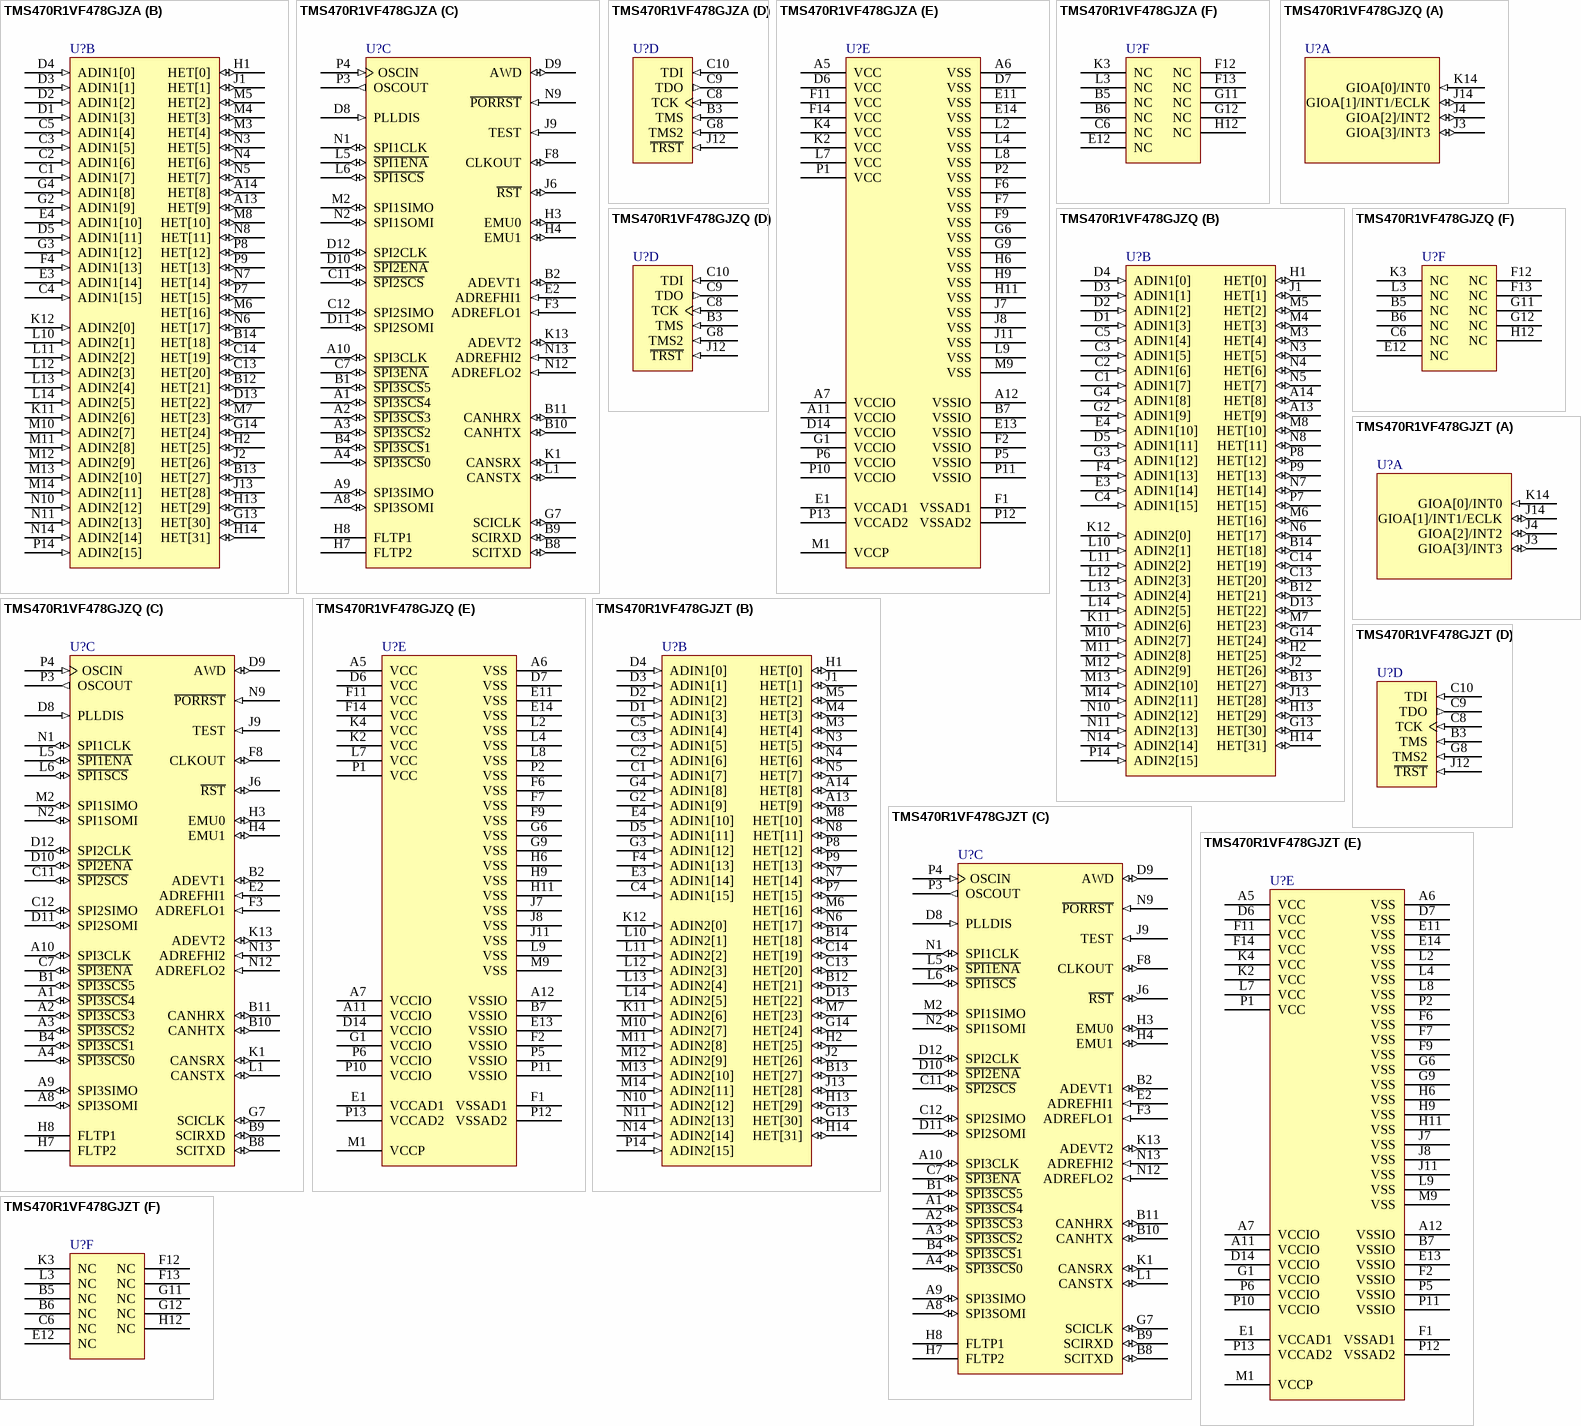
[diagram p45: symbols TMS470R1VF478GJZA to TMS470R1VF478GJZT]

## TMS470R1VF478GJZA
designator U?
ARM7TDMI 16/32-Bit RISC Automotive MCU, 288KB Flash, 16KB RAM, 176-ball PBGA, -40ºC to 85ºC; Published: 30-Mar-2007; DatasheetVersion: Jan-2006; PackageVersion: Mar-2003; PackageReference: GJZ176; Publisher: Altium Limited; PackageDescription: 176-Ball Plastic Ball Grid Array 1 mm Pitch; ComponentLink1Description: Manufacturer Link; ComponentLink1URL: http://www.ti.com/; ComponentLink2Description: Datasheet; ComponentLink2URL: http://focus.ti.com/lit/ds/symlink/tms470r1vf478.pdf
footprint GJZ176 (BGA, 176-Leads, Body 15x15mm, Pitch 1mm)
part A pins: J3 GIOA[3]/INT3 (io), J4 GIOA[2]/INT2 (io), J14 GIOA[1]/INT1/ECLK (io), K14 GIOA[0]/INT0 (in)
part B pins: A13 HET[9] (io), A14 HET[8] (io), B12 HET[21] (io), B13 HET[27] (io), B14 HET[18] (io), C1 ADIN1[7] (in), C2 ADIN1[6] (in), C3 ADIN1[5] (in), C4 ADIN1[15] (in), C5 ADIN1[4] (in), C13 HET[20] (io), C14 HET[19] (io), D1 ADIN1[3] (in), D2 ADIN1[2] (in), D3 ADIN1[1] (in), D4 ADIN1[0] (in), D5 ADIN1[11] (in), D13 HET[22] (io), E3 ADIN1[14] (in), E4 ADIN1[10] (in), F4 ADIN1[13] (in), G2 ADIN1[9] (in), G3 ADIN1[12] (in), G4 ADIN1[8] (in), G13 HET[30] (io), G14 HET[24] (io), H1 HET[0] (io), H2 HET[25] (io), H13 HET[29] (io), H14 HET[31] (io), J1 HET[1] (io), J2 HET[26] (io), J13 HET[28] (io), K11 ADIN2[6] (in), K12 ADIN2[0] (in), L10 ADIN2[1] (in), L11 ADIN2[2] (in), L12 ADIN2[3] (in), L13 ADIN2[4] (in), L14 ADIN2[5] (in), M3 HET[4] (io), M4 HET[3] (io), M5 HET[2] (io), M6 HET[16] (io), M7 HET[23] (io), M8 HET[10] (io), M10 ADIN2[7] (in), M11 ADIN2[8] (in), M12 ADIN2[9] (in), M13 ADIN2[10] (in), M14 ADIN2[11] (in), N3 HET[5] (io), N4 HET[6] (io), N5 HET[7] (io), N6 HET[17] (io), N7 HET[14] (io), N8 HET[11] (io), N10 ADIN2[12] (in), N11 ADIN2[13] (in), N14 ADIN2[14] (in), P7 HET[15] (io), P8 HET[12] (io), P9 HET[13] (io), P14 ADIN2[15] (in)
part C pins: A1 ~{SPI3SCS}4 (io), A2 ~{SPI3SCS}3 (io), A3 ~{SPI3SCS}2 (io), A4 ~{SPI3SCS}0 (io), A8 SPI3SOMI (io), A9 SPI3SIMO (io), A10 SPI3CLK (io), B1 ~{SPI3SCS}5 (io), B2 ADEVT1 (io), B4 ~{SPI3SCS}1 (io), B8 SCITXD (io), B9 SCIRXD (io), B10 CANHTX (io), B11 CANHRX (io), C7 ~{SPI3ENA} (io), C11 ~{SPI2SCS} (io), C12 SPI2SIMO (io), D8 PLLDIS (in), D9 AWD (io), D10 ~{SPI2ENA} (io), D11 SPI2SOMI (io), D12 SPI2CLK (io), E2 ADREFHI1 (in), F3 ADREFLO1 (in), F8 CLKOUT (io), G7 SCICLK (io), H3 EMU0 (io), H4 EMU1 (io), H7 FLTP2, H8 FLTP1, J6 ~{RST} (io), J9 TEST (in), K1 CANSRX (io), K13 ADEVT2 (io), L1 CANSTX (io), L5 ~{SPI1ENA} (io), L6 ~{SPI1SCS} (io), M2 SPI1SIMO (io), N1 SPI1CLK (io), N2 SPI1SOMI (io), N9 ~{PORRST} (in), N12 ADREFLO2 (in), N13 ADREFHI2 (in), P3 OSCOUT (out), P4 OSCIN (in)
part D pins: B3 TMS (in), C8 TCK (in), C9 TDO (out), C10 TDI (in), G8 TMS2 (in), J12 ~{TRST} (in)
part E pins: A5 VCC (power), A6 VSS (power), A7 VCCIO (power), A11 VCCIO (power), A12 VSSIO (power), B7 VSSIO (power), D6 VCC (power), D7 VSS (power), D14 VCCIO (power), E1 VCCAD1 (power), E11 VSS (power), E13 VSSIO (power), E14 VSS (power), F1 VSSAD1 (power), F2 VSSIO (power), F6 VSS (power), F7 VSS (power), F9 VSS (power), F11 VCC (power), F14 VCC (power), G1 VCCIO (power), G6 VSS (power), G9 VSS (power), H6 VSS (power), H9 VSS (power), H11 VSS (power), J7 VSS (power), J8 VSS (power), J11 VSS (power), K2 VCC (power), K4 VCC (power), L2 VSS (power), L4 VSS (power), L7 VCC (power), L8 VSS (power), L9 VSS (power), M1 VCCP (power), M9 VSS (power), P1 VCC (power), P2 VSS (power), P5 VSSIO (power), P6 VCCIO (power), P10 VCCIO (power), P11 VSSIO (power), P12 VSSAD2 (power), P13 VCCAD2 (power)
part F pins: B5 NC, B6 NC, C6 NC, E12 NC, F12 NC, F13 NC, G11 NC, G12 NC, H12 NC, K3 NC, L3 NC

## TMS470R1VF478GJZQ
designator U?
ARM7TDMI 16/32-Bit RISC Automotive MCU, 288KB Flash, 16KB RAM, 176-ball PBGA, -40ºC to 125ºC; Published: 30-Mar-2007; DatasheetVersion: Jan-2006; PackageVersion: Mar-2003; PackageReference: GJZ176; Publisher: Altium Limited; PackageDescription: 176-Ball Plastic Ball Grid Array 1 mm Pitch; ComponentLink1Description: Manufacturer Link; ComponentLink1URL: http://www.ti.com/; ComponentLink2Description: Datasheet; ComponentLink2URL: http://focus.ti.com/lit/ds/symlink/tms470r1vf478.pdf
footprint GJZ176 (BGA, 176-Leads, Body 15x15mm, Pitch 1mm)
part A pins: J3 GIOA[3]/INT3 (io), J4 GIOA[2]/INT2 (io), J14 GIOA[1]/INT1/ECLK (io), K14 GIOA[0]/INT0 (in)
part B pins: A13 HET[9] (io), A14 HET[8] (io), B12 HET[21] (io), B13 HET[27] (io), B14 HET[18] (io), C1 ADIN1[7] (in), C2 ADIN1[6] (in), C3 ADIN1[5] (in), C4 ADIN1[15] (in), C5 ADIN1[4] (in), C13 HET[20] (io), C14 HET[19] (io), D1 ADIN1[3] (in), D2 ADIN1[2] (in), D3 ADIN1[1] (in), D4 ADIN1[0] (in), D5 ADIN1[11] (in), D13 HET[22] (io), E3 ADIN1[14] (in), E4 ADIN1[10] (in), F4 ADIN1[13] (in), G2 ADIN1[9] (in), G3 ADIN1[12] (in), G4 ADIN1[8] (in), G13 HET[30] (io), G14 HET[24] (io), H1 HET[0] (io), H2 HET[25] (io), H13 HET[29] (io), H14 HET[31] (io), J1 HET[1] (io), J2 HET[26] (io), J13 HET[28] (io), K11 ADIN2[6] (in), K12 ADIN2[0] (in), L10 ADIN2[1] (in), L11 ADIN2[2] (in), L12 ADIN2[3] (in), L13 ADIN2[4] (in), L14 ADIN2[5] (in), M3 HET[4] (io), M4 HET[3] (io), M5 HET[2] (io), M6 HET[16] (io), M7 HET[23] (io), M8 HET[10] (io), M10 ADIN2[7] (in), M11 ADIN2[8] (in), M12 ADIN2[9] (in), M13 ADIN2[10] (in), M14 ADIN2[11] (in), N3 HET[5] (io), N4 HET[6] (io), N5 HET[7] (io), N6 HET[17] (io), N7 HET[14] (io), N8 HET[11] (io), N10 ADIN2[12] (in), N11 ADIN2[13] (in), N14 ADIN2[14] (in), P7 HET[15] (io), P8 HET[12] (io), P9 HET[13] (io), P14 ADIN2[15] (in)
part C pins: A1 ~{SPI3SCS}4 (io), A2 ~{SPI3SCS}3 (io), A3 ~{SPI3SCS}2 (io), A4 ~{SPI3SCS}0 (io), A8 SPI3SOMI (io), A9 SPI3SIMO (io), A10 SPI3CLK (io), B1 ~{SPI3SCS}5 (io), B2 ADEVT1 (io), B4 ~{SPI3SCS}1 (io), B8 SCITXD (io), B9 SCIRXD (io), B10 CANHTX (io), B11 CANHRX (io), C7 ~{SPI3ENA} (io), C11 ~{SPI2SCS} (io), C12 SPI2SIMO (io), D8 PLLDIS (in), D9 AWD (io), D10 ~{SPI2ENA} (io), D11 SPI2SOMI (io), D12 SPI2CLK (io), E2 ADREFHI1 (in), F3 ADREFLO1 (in), F8 CLKOUT (io), G7 SCICLK (io), H3 EMU0 (io), H4 EMU1 (io), H7 FLTP2, H8 FLTP1, J6 ~{RST} (io), J9 TEST (in), K1 CANSRX (io), K13 ADEVT2 (io), L1 CANSTX (io), L5 ~{SPI1ENA} (io), L6 ~{SPI1SCS} (io), M2 SPI1SIMO (io), N1 SPI1CLK (io), N2 SPI1SOMI (io), N9 ~{PORRST} (in), N12 ADREFLO2 (in), N13 ADREFHI2 (in), P3 OSCOUT (out), P4 OSCIN (in)
part D pins: B3 TMS (in), C8 TCK (in), C9 TDO (out), C10 TDI (in), G8 TMS2 (in), J12 ~{TRST} (in)
part E pins: A5 VCC (power), A6 VSS (power), A7 VCCIO (power), A11 VCCIO (power), A12 VSSIO (power), B7 VSSIO (power), D6 VCC (power), D7 VSS (power), D14 VCCIO (power), E1 VCCAD1 (power), E11 VSS (power), E13 VSSIO (power), E14 VSS (power), F1 VSSAD1 (power), F2 VSSIO (power), F6 VSS (power), F7 VSS (power), F9 VSS (power), F11 VCC (power), F14 VCC (power), G1 VCCIO (power), G6 VSS (power), G9 VSS (power), H6 VSS (power), H9 VSS (power), H11 VSS (power), J7 VSS (power), J8 VSS (power), J11 VSS (power), K2 VCC (power), K4 VCC (power), L2 VSS (power), L4 VSS (power), L7 VCC (power), L8 VSS (power), L9 VSS (power), M1 VCCP (power), M9 VSS (power), P1 VCC (power), P2 VSS (power), P5 VSSIO (power), P6 VCCIO (power), P10 VCCIO (power), P11 VSSIO (power), P12 VSSAD2 (power), P13 VCCAD2 (power)
part F pins: B5 NC, B6 NC, C6 NC, E12 NC, F12 NC, F13 NC, G11 NC, G12 NC, H12 NC, K3 NC, L3 NC

## TMS470R1VF478GJZT
designator U?
ARM7TDMI 16/32-Bit RISC Automotive MCU, 288KB Flash, 16KB RAM, 176-ball PBGA, -40ºC to 105ºC; Published: 30-Mar-2007; DatasheetVersion: Jan-2006; PackageVersion: Mar-2003; PackageReference: GJZ176; Publisher: Altium Limited; PackageDescription: 176-Ball Plastic Ball Grid Array 1 mm Pitch; ComponentLink1Description: Manufacturer Link; ComponentLink1URL: http://www.ti.com/; ComponentLink2Description: Datasheet; ComponentLink2URL: http://focus.ti.com/lit/ds/symlink/tms470r1vf478.pdf
footprint GJZ176 (BGA, 176-Leads, Body 15x15mm, Pitch 1mm)
part A pins: J3 GIOA[3]/INT3 (io), J4 GIOA[2]/INT2 (io), J14 GIOA[1]/INT1/ECLK (io), K14 GIOA[0]/INT0 (in)
part B pins: A13 HET[9] (io), A14 HET[8] (io), B12 HET[21] (io), B13 HET[27] (io), B14 HET[18] (io), C1 ADIN1[7] (in), C2 ADIN1[6] (in), C3 ADIN1[5] (in), C4 ADIN1[15] (in), C5 ADIN1[4] (in), C13 HET[20] (io), C14 HET[19] (io), D1 ADIN1[3] (in), D2 ADIN1[2] (in), D3 ADIN1[1] (in), D4 ADIN1[0] (in), D5 ADIN1[11] (in), D13 HET[22] (io), E3 ADIN1[14] (in), E4 ADIN1[10] (in), F4 ADIN1[13] (in), G2 ADIN1[9] (in), G3 ADIN1[12] (in), G4 ADIN1[8] (in), G13 HET[30] (io), G14 HET[24] (io), H1 HET[0] (io), H2 HET[25] (io), H13 HET[29] (io), H14 HET[31] (io), J1 HET[1] (io), J2 HET[26] (io), J13 HET[28] (io), K11 ADIN2[6] (in), K12 ADIN2[0] (in), L10 ADIN2[1] (in), L11 ADIN2[2] (in), L12 ADIN2[3] (in), L13 ADIN2[4] (in), L14 ADIN2[5] (in), M3 HET[4] (io), M4 HET[3] (io), M5 HET[2] (io), M6 HET[16] (io), M7 HET[23] (io), M8 HET[10] (io), M10 ADIN2[7] (in), M11 ADIN2[8] (in), M12 ADIN2[9] (in), M13 ADIN2[10] (in), M14 ADIN2[11] (in), N3 HET[5] (io), N4 HET[6] (io), N5 HET[7] (io), N6 HET[17] (io), N7 HET[14] (io), N8 HET[11] (io), N10 ADIN2[12] (in), N11 ADIN2[13] (in), N14 ADIN2[14] (in), P7 HET[15] (io), P8 HET[12] (io), P9 HET[13] (io), P14 ADIN2[15] (in)
part C pins: A1 ~{SPI3SCS}4 (io), A2 ~{SPI3SCS}3 (io), A3 ~{SPI3SCS}2 (io), A4 ~{SPI3SCS}0 (io), A8 SPI3SOMI (io), A9 SPI3SIMO (io), A10 SPI3CLK (io), B1 ~{SPI3SCS}5 (io), B2 ADEVT1 (io), B4 ~{SPI3SCS}1 (io), B8 SCITXD (io), B9 SCIRXD (io), B10 CANHTX (io), B11 CANHRX (io), C7 ~{SPI3ENA} (io), C11 ~{SPI2SCS} (io), C12 SPI2SIMO (io), D8 PLLDIS (in), D9 AWD (io), D10 ~{SPI2ENA} (io), D11 SPI2SOMI (io), D12 SPI2CLK (io), E2 ADREFHI1 (in), F3 ADREFLO1 (in), F8 CLKOUT (io), G7 SCICLK (io), H3 EMU0 (io), H4 EMU1 (io), H7 FLTP2, H8 FLTP1, J6 ~{RST} (io), J9 TEST (in), K1 CANSRX (io), K13 ADEVT2 (io), L1 CANSTX (io), L5 ~{SPI1ENA} (io), L6 ~{SPI1SCS} (io), M2 SPI1SIMO (io), N1 SPI1CLK (io), N2 SPI1SOMI (io), N9 ~{PORRST} (in), N12 ADREFLO2 (in), N13 ADREFHI2 (in), P3 OSCOUT (out), P4 OSCIN (in)
part D pins: B3 TMS (in), C8 TCK (in), C9 TDO (out), C10 TDI (in), G8 TMS2 (in), J12 ~{TRST} (in)
part E pins: A5 VCC (power), A6 VSS (power), A7 VCCIO (power), A11 VCCIO (power), A12 VSSIO (power), B7 VSSIO (power), D6 VCC (power), D7 VSS (power), D14 VCCIO (power), E1 VCCAD1 (power), E11 VSS (power), E13 VSSIO (power), E14 VSS (power), F1 VSSAD1 (power), F2 VSSIO (power), F6 VSS (power), F7 VSS (power), F9 VSS (power), F11 VCC (power), F14 VCC (power), G1 VCCIO (power), G6 VSS (power), G9 VSS (power), H6 VSS (power), H9 VSS (power), H11 VSS (power), J7 VSS (power), J8 VSS (power), J11 VSS (power), K2 VCC (power), K4 VCC (power), L2 VSS (power), L4 VSS (power), L7 VCC (power), L8 VSS (power), L9 VSS (power), M1 VCCP (power), M9 VSS (power), P1 VCC (power), P2 VSS (power), P5 VSSIO (power), P6 VCCIO (power), P10 VCCIO (power), P11 VSSIO (power), P12 VSSAD2 (power), P13 VCCAD2 (power)
part F pins: B5 NC, B6 NC, C6 NC, E12 NC, F12 NC, F13 NC, G11 NC, G12 NC, H12 NC, K3 NC, L3 NC

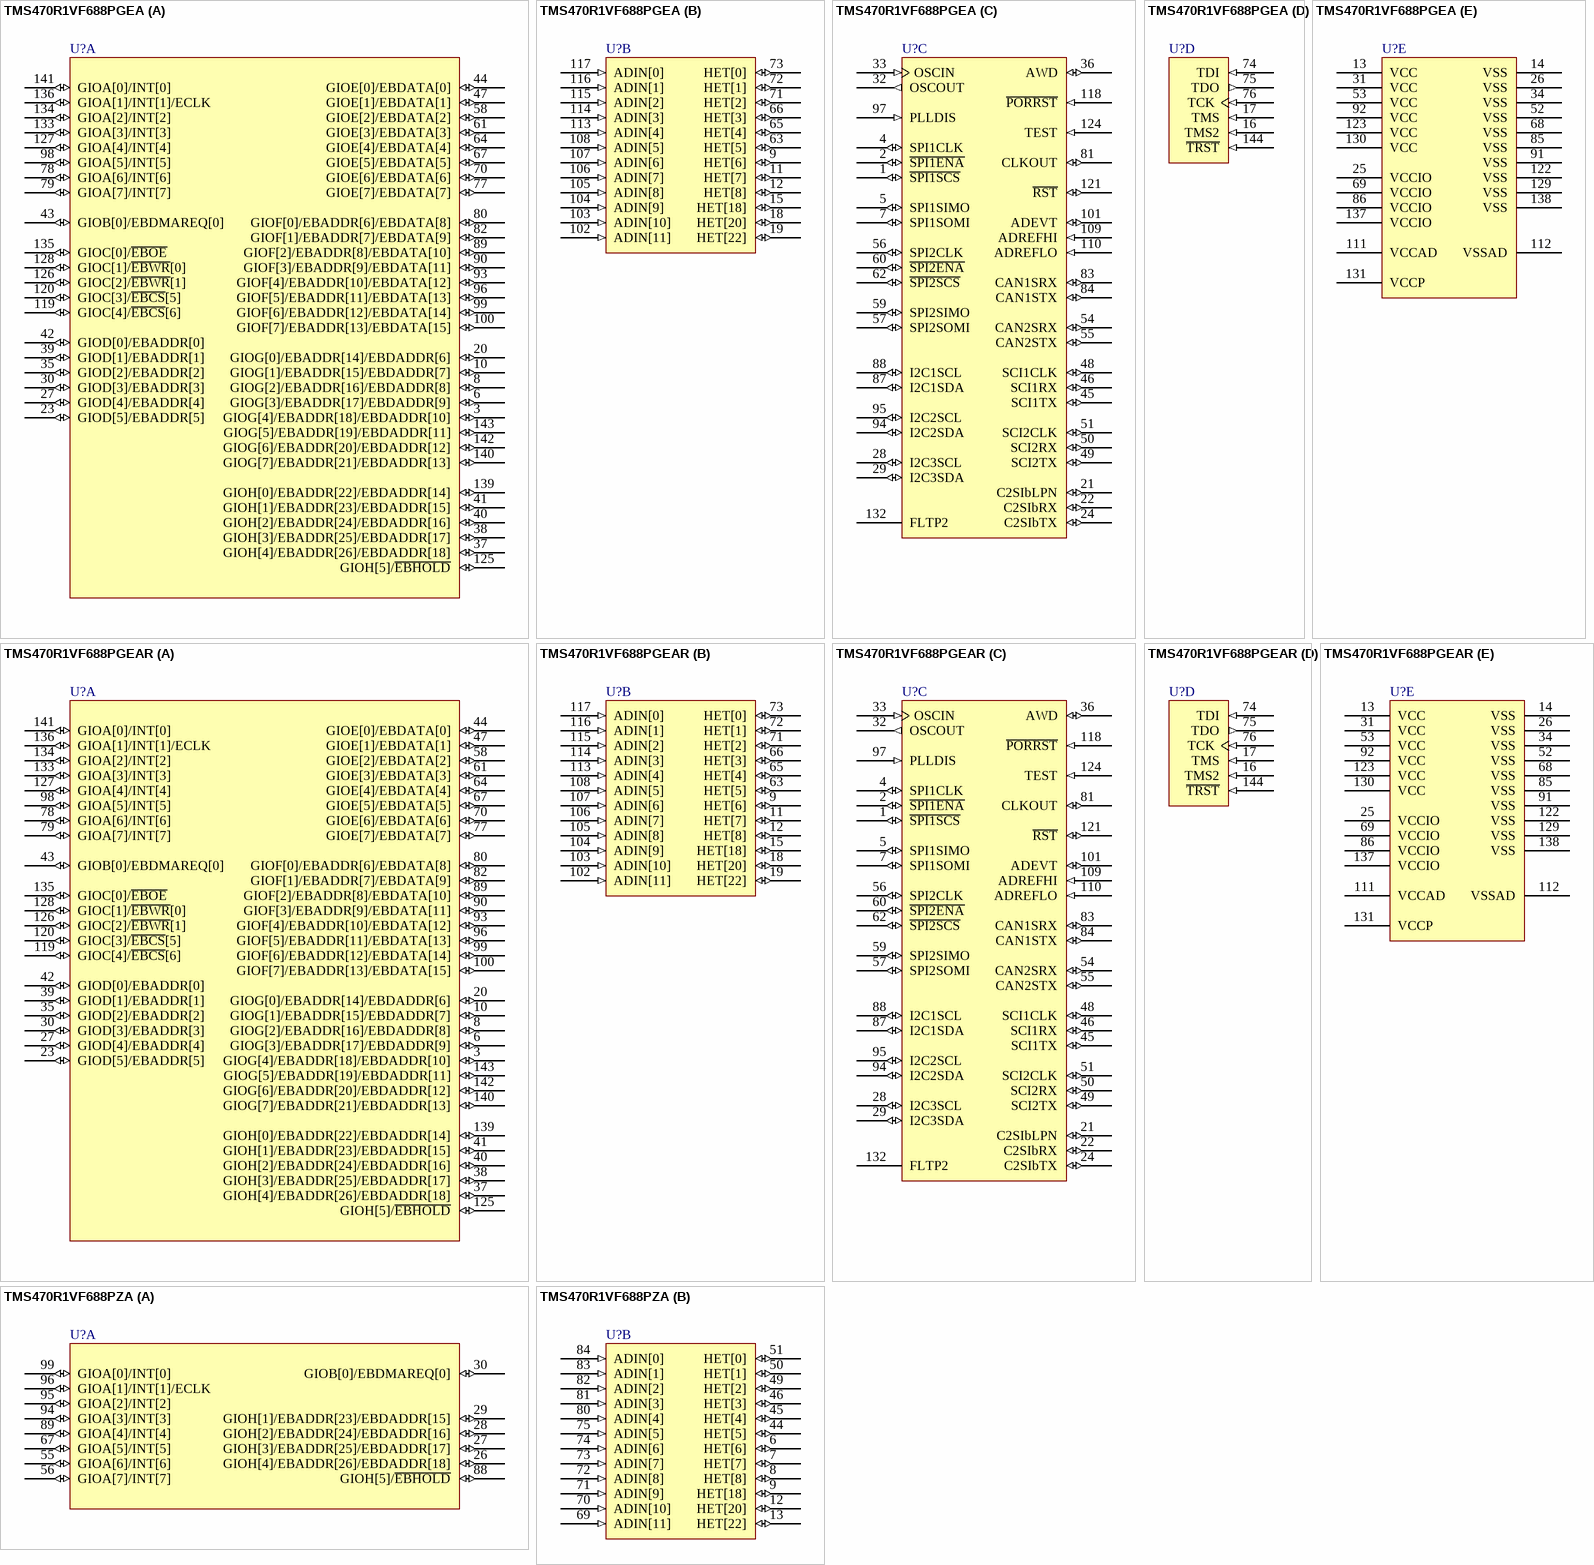
[diagram p46: symbols TMS470R1VF688PGEA to TMS470R1VF688PZA]

## TMS470R1VF688PGEA
designator U?
ARM7TDMI 16/32-Bit RISC Automotive MCU, 384KB Flash, 32KB RAM, 144-pin LQFP, -40ºC to 85ºC; Published: 30-Mar-2007; DatasheetVersion: Aug-2005; PackageVersion: Dec-1996; PackageReference: PGE144; Publisher: Altium Limited; PackageDescription: 144-Pin Thin Quad Flat Pack 0.5 mm Pitch; ComponentLink1Description: Manufacturer Link; ComponentLink1URL: http://www.ti.com/; ComponentLink2Description: Datasheet; ComponentLink2URL: http://focus.ti.com/lit/ds/symlink/tms470r1vf689.pdf
footprint PGE144_N (Thin QFP, 144-Leads, Body 20x20mm, Pitch 0.5mm, IPC Medium Density)
footprint PGE144_L (Thin QFP, 144-Leads, Body 20x20mm, Pitch 0.5mm, IPC High Density)
footprint PGE144_M (Thin QFP, 144-Leads, Body 20x20mm, Pitch 0.5mm, IPC Low Density)
part A pins: 3 GIOG[4]/EBADDR[18]/EBDADDR[10] (io), 6 GIOG[3]/EBADDR[17]/EBDADDR[9] (io), 8 GIOG[2]/EBADDR[16]/EBDADDR[8] (io), 10 GIOG[1]/EBADDR[15]/EBDADDR[7] (io), 20 GIOG[0]/EBADDR[14]/EBDADDR[6] (io), 23 GIOD[5]/EBADDR[5] (io), 27 GIOD[4]/EBADDR[4] (io), 30 GIOD[3]/EBADDR[3] (io), 35 GIOD[2]/EBADDR[2] (io), 37 GIOH[4]/EBADDR[26]/EBDADDR[18] (io), 38 GIOH[3]/EBADDR[25]/EBDADDR[17] (io), 39 GIOD[1]/EBADDR[1] (io), 40 GIOH[2]/EBADDR[24]/EBDADDR[16] (io), 41 GIOH[1]/EBADDR[23]/EBDADDR[15] (io), 42 GIOD[0]/EBADDR[0] (io), 43 GIOB[0]/EBDMAREQ[0] (io), 44 GIOE[0]/EBDATA[0] (io), 47 GIOE[1]/EBDATA[1] (io), 58 GIOE[2]/EBDATA[2] (io), 61 GIOE[3]/EBDATA[3] (io), 64 GIOE[4]/EBDATA[4] (io), 67 GIOE[5]/EBDATA[5] (io), 70 GIOE[6]/EBDATA[6] (io), 77 GIOE[7]/EBDATA[7] (io), 78 GIOA[6]/INT[6] (io), 79 GIOA[7]/INT[7] (io), 80 GIOF[0]/EBADDR[6]/EBDATA[8] (io), 82 GIOF[1]/EBADDR[7]/EBDATA[9] (io), 89 GIOF[2]/EBADDR[8]/EBDATA[10] (io), 90 GIOF[3]/EBADDR[9]/EBDATA[11] (io), 93 GIOF[4]/EBADDR[10]/EBDATA[12] (io), 96 GIOF[5]/EBADDR[11]/EBDATA[13] (io), 98 GIOA[5]/INT[5] (io), 99 GIOF[6]/EBADDR[12]/EBDATA[14] (io), 100 GIOF[7]/EBADDR[13]/EBDATA[15] (io), 119 GIOC[4]/~{EBCS}[6] (io), 120 GIOC[3]/~{EBCS}[5] (io), 125 GIOH[5]/~{EBHOLD} (io), 126 GIOC[2]/~{EBWR}[1] (io), 127 GIOA[4]/INT[4] (io), 128 GIOC[1]/~{EBWR}[0] (io), 133 GIOA[3]/INT[3] (io), 134 GIOA[2]/INT[2] (io), 135 GIOC[0]/~{EBOE} (io), 136 GIOA[1]/INT[1]/ECLK (io), 139 GIOH[0]/EBADDR[22]/EBDADDR[14] (io), 140 GIOG[7]/EBADDR[21]/EBDADDR[13] (io), 141 GIOA[0]/INT[0] (io), 142 GIOG[6]/EBADDR[20]/EBDADDR[12] (io), 143 GIOG[5]/EBADDR[19]/EBDADDR[11] (io)
part B pins: 9 HET[6] (io), 11 HET[7] (io), 12 HET[8] (io), 15 HET[18] (io), 18 HET[20] (io), 19 HET[22] (io), 63 HET[5] (io), 65 HET[4] (io), 66 HET[3] (io), 71 HET[2] (io), 72 HET[1] (io), 73 HET[0] (io), 102 ADIN[11] (in), 103 ADIN[10] (in), 104 ADIN[9] (in), 105 ADIN[8] (in), 106 ADIN[7] (in), 107 ADIN[6] (in), 108 ADIN[5] (in), 113 ADIN[4] (in), 114 ADIN[3] (in), 115 ADIN[2] (in), 116 ADIN[1] (in), 117 ADIN[0] (in)
part C pins: 1 ~{SPI1SCS} (io), 2 ~{SPI1ENA} (io), 4 SPI1CLK (io), 5 SPI1SIMO (io), 7 SPI1SOMI (io), 21 C2SIbLPN (io), 22 C2SIbRX (io), 24 C2SIbTX (io), 28 I2C3SCL (io), 29 I2C3SDA (io), 32 OSCOUT (out), 33 OSCIN (in), 36 AWD (io), 45 SCI1TX (io), 46 SCI1RX (io), 48 SCI1CLK (io), 49 SCI2TX (io), 50 SCI2RX (io), 51 SCI2CLK (io), 54 CAN2SRX (io), 55 CAN2STX (io), 56 SPI2CLK (io), 57 SPI2SOMI (io), 59 SPI2SIMO (io), 60 ~{SPI2ENA} (io), 62 ~{SPI2SCS} (io), 81 CLKOUT (io), 83 CAN1SRX (io), 84 CAN1STX (io), 87 I2C1SDA (io), 88 I2C1SCL (io), 94 I2C2SDA (io), 95 I2C2SCL (io), 97 PLLDIS (in), 101 ADEVT (io), 109 ADREFHI (in), 110 ADREFLO (in), 118 ~{PORRST} (in), 121 ~{RST} (io), 124 TEST (in), 132 FLTP2
part D pins: 16 TMS2 (in), 17 TMS (in), 74 TDI (in), 75 TDO (out), 76 TCK (in), 144 ~{TRST} (in)
part E pins: 13 VCC (power), 14 VSS (power), 25 VCCIO (power), 26 VSS (power), 31 VCC (power), 34 VSS (power), 52 VSS (power), 53 VCC (power), 68 VSS (power), 69 VCCIO (power), 85 VSS (power), 86 VCCIO (power), 91 VSS (power), 92 VCC (power), 111 VCCAD (power), 112 VSSAD (power), 122 VSS (power), 123 VCC (power), 129 VSS (power), 130 VCC (power), 131 VCCP (power), 137 VCCIO (power), 138 VSS (power)

## TMS470R1VF688PGEAR
designator U?
ARM7TDMI 16/32-Bit RISC Automotive MCU, 384KB Flash, 32KB RAM, 144-pin LQFP, -40ºC to 85ºC; Published: 30-Mar-2007; DatasheetVersion: Aug-2005; PackageVersion: Dec-1996; PackageReference: PGE144; Publisher: Altium Limited; PackageDescription: 144-Pin Thin Quad Flat Pack 0.5 mm Pitch; ComponentLink1Description: Manufacturer Link; ComponentLink1URL: http://www.ti.com/; ComponentLink2Description: Datasheet; ComponentLink2URL: http://focus.ti.com/lit/ds/symlink/tms470r1vf689.pdf
footprint PGE144_N (Thin QFP, 144-Leads, Body 20x20mm, Pitch 0.5mm, IPC Medium Density)
footprint PGE144_L (Thin QFP, 144-Leads, Body 20x20mm, Pitch 0.5mm, IPC High Density)
footprint PGE144_M (Thin QFP, 144-Leads, Body 20x20mm, Pitch 0.5mm, IPC Low Density)
part A pins: 3 GIOG[4]/EBADDR[18]/EBDADDR[10] (io), 6 GIOG[3]/EBADDR[17]/EBDADDR[9] (io), 8 GIOG[2]/EBADDR[16]/EBDADDR[8] (io), 10 GIOG[1]/EBADDR[15]/EBDADDR[7] (io), 20 GIOG[0]/EBADDR[14]/EBDADDR[6] (io), 23 GIOD[5]/EBADDR[5] (io), 27 GIOD[4]/EBADDR[4] (io), 30 GIOD[3]/EBADDR[3] (io), 35 GIOD[2]/EBADDR[2] (io), 37 GIOH[4]/EBADDR[26]/EBDADDR[18] (io), 38 GIOH[3]/EBADDR[25]/EBDADDR[17] (io), 39 GIOD[1]/EBADDR[1] (io), 40 GIOH[2]/EBADDR[24]/EBDADDR[16] (io), 41 GIOH[1]/EBADDR[23]/EBDADDR[15] (io), 42 GIOD[0]/EBADDR[0] (io), 43 GIOB[0]/EBDMAREQ[0] (io), 44 GIOE[0]/EBDATA[0] (io), 47 GIOE[1]/EBDATA[1] (io), 58 GIOE[2]/EBDATA[2] (io), 61 GIOE[3]/EBDATA[3] (io), 64 GIOE[4]/EBDATA[4] (io), 67 GIOE[5]/EBDATA[5] (io), 70 GIOE[6]/EBDATA[6] (io), 77 GIOE[7]/EBDATA[7] (io), 78 GIOA[6]/INT[6] (io), 79 GIOA[7]/INT[7] (io), 80 GIOF[0]/EBADDR[6]/EBDATA[8] (io), 82 GIOF[1]/EBADDR[7]/EBDATA[9] (io), 89 GIOF[2]/EBADDR[8]/EBDATA[10] (io), 90 GIOF[3]/EBADDR[9]/EBDATA[11] (io), 93 GIOF[4]/EBADDR[10]/EBDATA[12] (io), 96 GIOF[5]/EBADDR[11]/EBDATA[13] (io), 98 GIOA[5]/INT[5] (io), 99 GIOF[6]/EBADDR[12]/EBDATA[14] (io), 100 GIOF[7]/EBADDR[13]/EBDATA[15] (io), 119 GIOC[4]/~{EBCS}[6] (io), 120 GIOC[3]/~{EBCS}[5] (io), 125 GIOH[5]/~{EBHOLD} (io), 126 GIOC[2]/~{EBWR}[1] (io), 127 GIOA[4]/INT[4] (io), 128 GIOC[1]/~{EBWR}[0] (io), 133 GIOA[3]/INT[3] (io), 134 GIOA[2]/INT[2] (io), 135 GIOC[0]/~{EBOE} (io), 136 GIOA[1]/INT[1]/ECLK (io), 139 GIOH[0]/EBADDR[22]/EBDADDR[14] (io), 140 GIOG[7]/EBADDR[21]/EBDADDR[13] (io), 141 GIOA[0]/INT[0] (io), 142 GIOG[6]/EBADDR[20]/EBDADDR[12] (io), 143 GIOG[5]/EBADDR[19]/EBDADDR[11] (io)
part B pins: 9 HET[6] (io), 11 HET[7] (io), 12 HET[8] (io), 15 HET[18] (io), 18 HET[20] (io), 19 HET[22] (io), 63 HET[5] (io), 65 HET[4] (io), 66 HET[3] (io), 71 HET[2] (io), 72 HET[1] (io), 73 HET[0] (io), 102 ADIN[11] (in), 103 ADIN[10] (in), 104 ADIN[9] (in), 105 ADIN[8] (in), 106 ADIN[7] (in), 107 ADIN[6] (in), 108 ADIN[5] (in), 113 ADIN[4] (in), 114 ADIN[3] (in), 115 ADIN[2] (in), 116 ADIN[1] (in), 117 ADIN[0] (in)
part C pins: 1 ~{SPI1SCS} (io), 2 ~{SPI1ENA} (io), 4 SPI1CLK (io), 5 SPI1SIMO (io), 7 SPI1SOMI (io), 21 C2SIbLPN (io), 22 C2SIbRX (io), 24 C2SIbTX (io), 28 I2C3SCL (io), 29 I2C3SDA (io), 32 OSCOUT (out), 33 OSCIN (in), 36 AWD (io), 45 SCI1TX (io), 46 SCI1RX (io), 48 SCI1CLK (io), 49 SCI2TX (io), 50 SCI2RX (io), 51 SCI2CLK (io), 54 CAN2SRX (io), 55 CAN2STX (io), 56 SPI2CLK (io), 57 SPI2SOMI (io), 59 SPI2SIMO (io), 60 ~{SPI2ENA} (io), 62 ~{SPI2SCS} (io), 81 CLKOUT (io), 83 CAN1SRX (io), 84 CAN1STX (io), 87 I2C1SDA (io), 88 I2C1SCL (io), 94 I2C2SDA (io), 95 I2C2SCL (io), 97 PLLDIS (in), 101 ADEVT (io), 109 ADREFHI (in), 110 ADREFLO (in), 118 ~{PORRST} (in), 121 ~{RST} (io), 124 TEST (in), 132 FLTP2
part D pins: 16 TMS2 (in), 17 TMS (in), 74 TDI (in), 75 TDO (out), 76 TCK (in), 144 ~{TRST} (in)
part E pins: 13 VCC (power), 14 VSS (power), 25 VCCIO (power), 26 VSS (power), 31 VCC (power), 34 VSS (power), 52 VSS (power), 53 VCC (power), 68 VSS (power), 69 VCCIO (power), 85 VSS (power), 86 VCCIO (power), 91 VSS (power), 92 VCC (power), 111 VCCAD (power), 112 VSSAD (power), 122 VSS (power), 123 VCC (power), 129 VSS (power), 130 VCC (power), 131 VCCP (power), 137 VCCIO (power), 138 VSS (power)

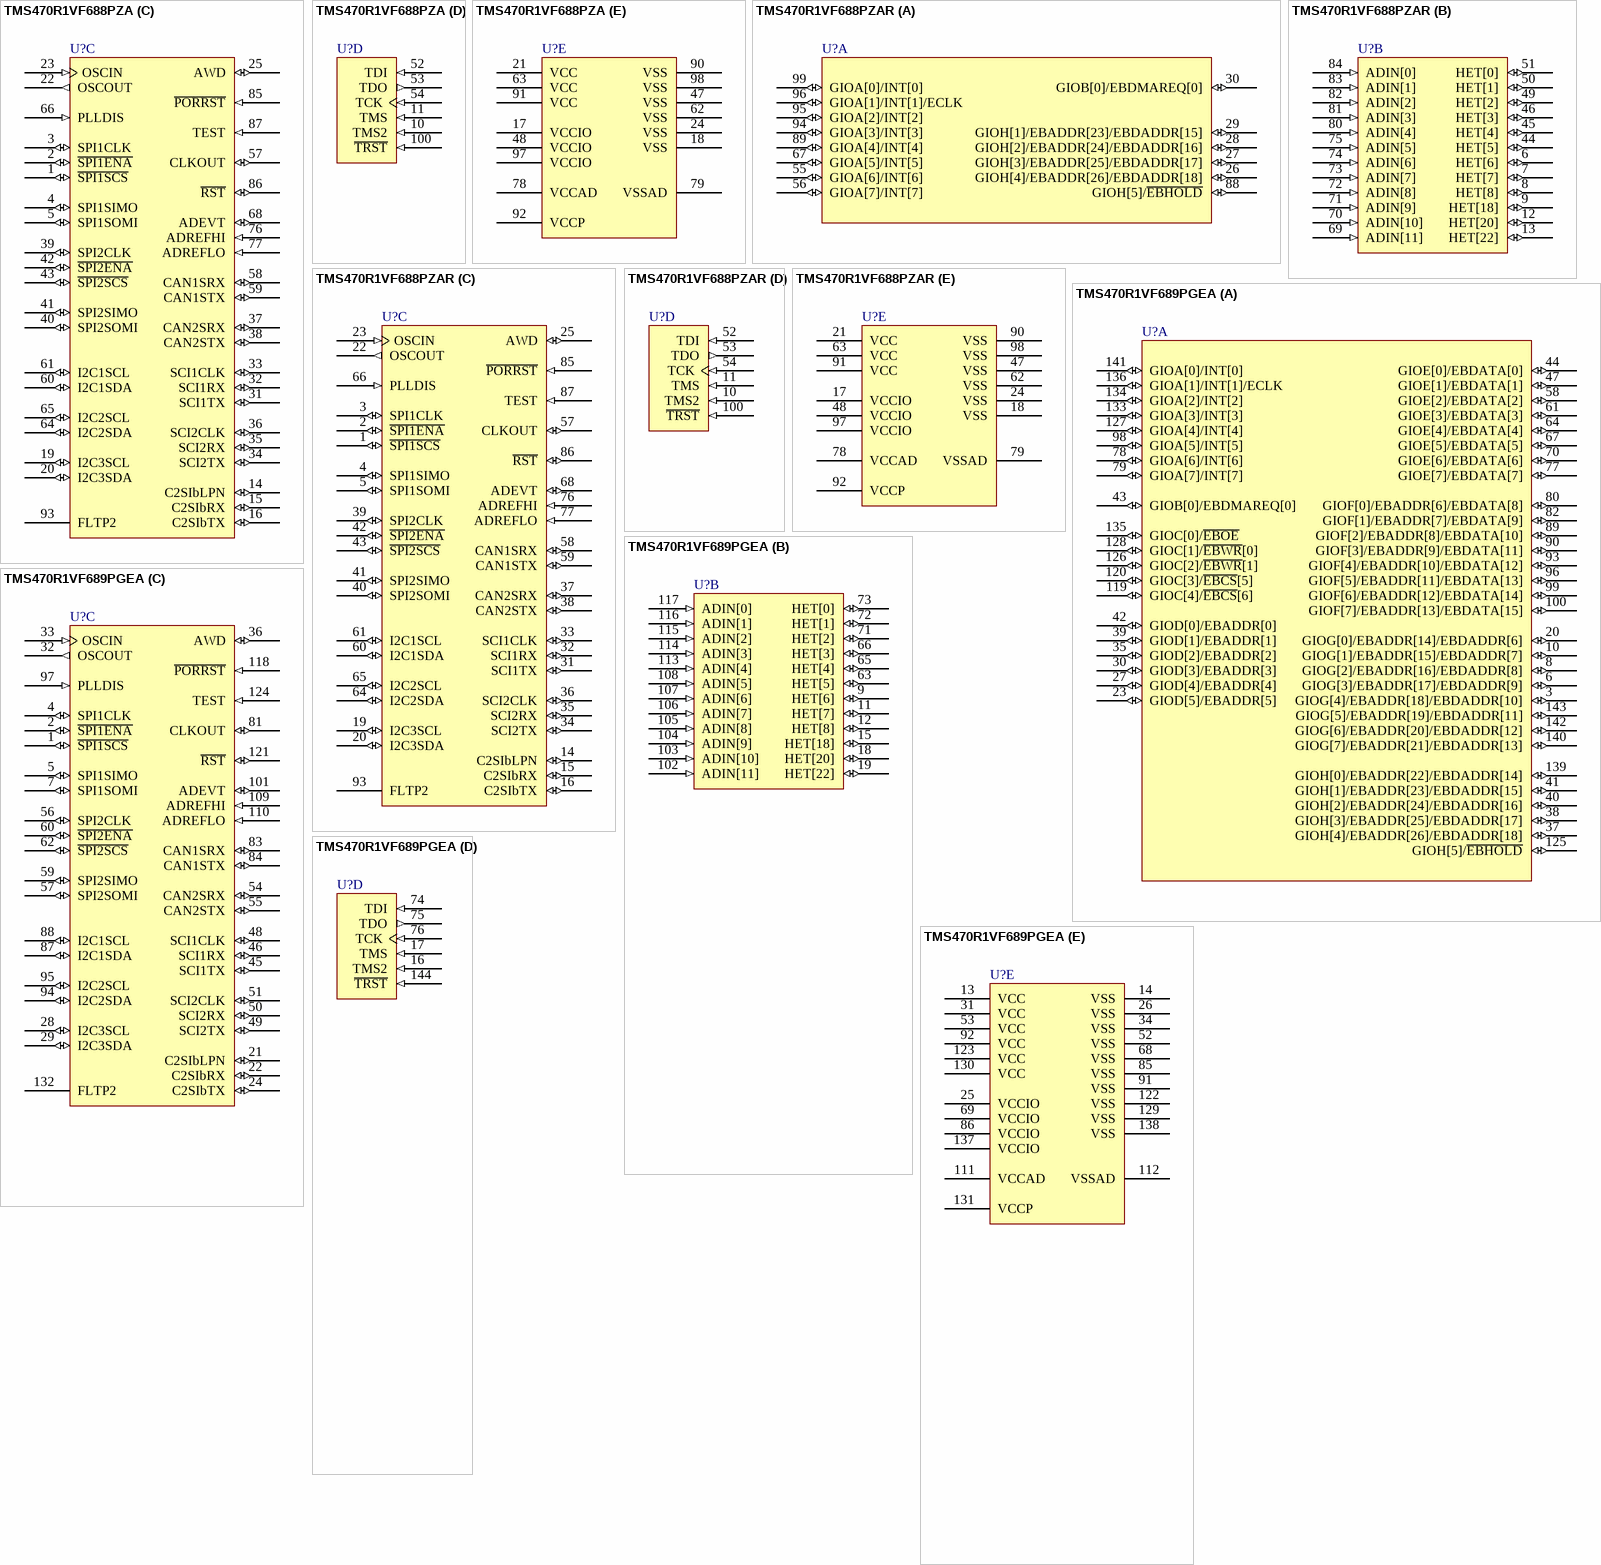
[diagram p47: symbols TMS470R1VF688PZA to TMS470R1VF689PGEA]